# Altium integrated library Actel IGLOOe.IntLib: 72 symbols (part 10 of 24)
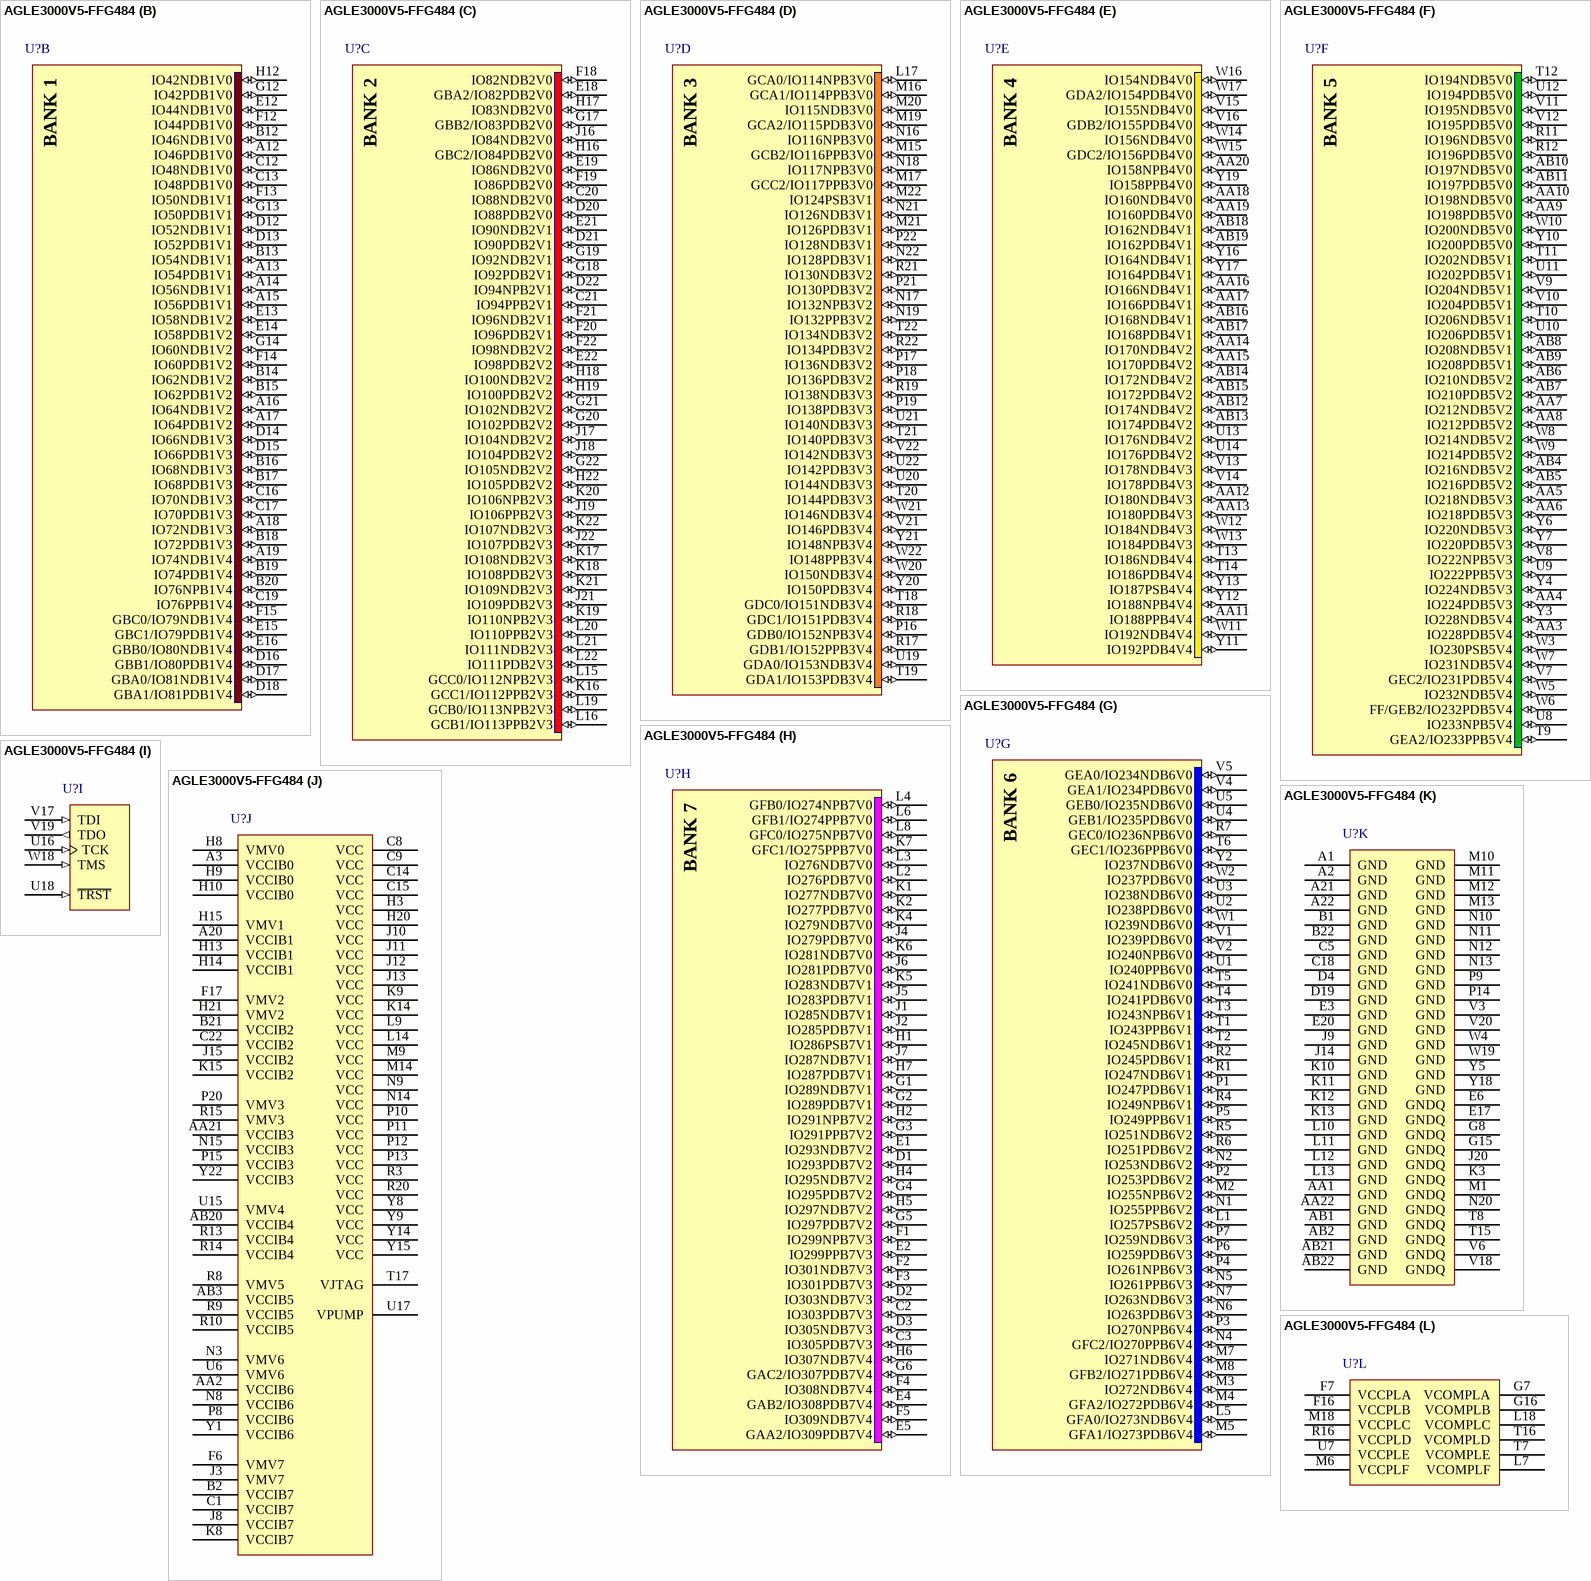
[diagram p116: symbol AGLE3000V5-FFG484]

## AGLE3000V5-FFG484
designator U?
IGLOOe 1.5V Flash FPGA with Flash*Freeze, 341 User IOs, 3M System Gates, 504Kbits RAM, 1Kbit Flash ROM, 484-Pin FBGA, F Speed Grade, Commercial Grade; DatasheetVersion: v1.0, Jan-2008; PackageVersion: rev39, Aug-2010; PackageReference: FG484; PackageDescription: 484-Ball Fine Pitch Plastic Ball Grid Array (FG484) - Fully Populated; Code_JEDEC: MS-034-AAJ-1; Code_IPC: BGA100P22X22-484; ComponentLink1Description: Manufacturer URL; ComponentLink1URL: http://www.actel.com/; ComponentLink2Description: IGLOOe Datasheet; ComponentLink2URL: http://www.actel.com/documents/IGLOOe_DS.pdf; ComponentLink3Description: Package Mechanical Drawings; ComponentLink3URL: http://www.actel.com/documents/PckgMechDrwngs.pdf; ComponentLink4Description: IGLOOe Documents; ComponentLink4URL: http://www.actel.com/products/igloo/docs.aspx
footprint FG484 (BGA, 484-Leads, Body 23x23mm, Pitch 1mm)
part A pins: A4 IO10NDB0V1 (io), A5 IO10PDB0V1 (io), A6 IO16NDB0V1 (io), A7 IO16PDB0V1 (io), A8 IO18PDB0V2 (io), A9 IO24PDB0V2 (io), A10 IO28NDB0V3 (io), A11 IO28PDB0V3 (io), B3 IO06PPB0V0 (io), B4 IO08NDB0V0 (io), B5 IO08PDB0V0 (io), B6 IO14NDB0V1 (io), B7 IO14PDB0V1 (io), B8 IO18NDB0V2 (io), B9 IO24NDB0V2 (io), B10 IO34PDB0V4 (io), B11 IO40PDB0V4 (io), C4 IO06NPB0V0 (io), C6 IO12NDB0V1 (io), C7 IO12PDB0V1 (io), C10 IO34NDB0V4 (io), C11 IO40NDB0V4 (io), D5 GAA0/IO00NDB0V0 (io), D6 GAA1/IO00PDB0V0 (io), D7 GAB0/IO01NDB0V0 (io), D8 IO20PDB0V2 (io), D9 IO22PDB0V2 (io), D10 IO30PDB0V3 (io), D11 IO38NDB0V4 (io), E7 GAB1/IO01PDB0V0 (io), E8 IO20NDB0V2 (io), E9 IO22NDB0V2 (io), E10 IO30NDB0V3 (io), E11 IO38PDB0V4 (io), F8 GAC0/IO02NDB0V0 (io), F9 GAC1/IO02PDB0V0 (io), F10 IO32NDB0V3 (io), F11 IO32PDB0V3 (io), G9 IO26NDB0V3 (io), G10 IO26PDB0V3 (io), G11 IO36PDB0V4 (io), H11 IO36NDB0V4 (io)
part B pins: A12 IO46PDB1V0 (io), A13 IO54PDB1V1 (io), A14 IO56NDB1V1 (io), A15 IO56PDB1V1 (io), A16 IO64NDB1V2 (io), A17 IO64PDB1V2 (io), A18 IO72NDB1V3 (io), A19 IO74NDB1V4 (io), B12 IO46NDB1V0 (io), B13 IO54NDB1V1 (io), B14 IO62NDB1V2 (io), B15 IO62PDB1V2 (io), B16 IO68NDB1V3 (io), B17 IO68PDB1V3 (io), B18 IO72PDB1V3 (io), B19 IO74PDB1V4 (io), B20 IO76NPB1V4 (io), C12 IO48NDB1V0 (io), C13 IO48PDB1V0 (io), C16 IO70NDB1V3 (io), C17 IO70PDB1V3 (io), C19 IO76PPB1V4 (io), D12 IO52NDB1V1 (io), D13 IO52PDB1V1 (io), D14 IO66NDB1V3 (io), D15 IO66PDB1V3 (io), D16 GBB1/IO80PDB1V4 (io), D17 GBA0/IO81NDB1V4 (io), D18 GBA1/IO81PDB1V4 (io), E12 IO44NDB1V0 (io), E13 IO58NDB1V2 (io), E14 IO58PDB1V2 (io), E15 GBC1/IO79PDB1V4 (io), E16 GBB0/IO80NDB1V4 (io), F12 IO44PDB1V0 (io), F13 IO50NDB1V1 (io), F14 IO60PDB1V2 (io), F15 GBC0/IO79NDB1V4 (io), G12 IO42PDB1V0 (io), G13 IO50PDB1V1 (io), G14 IO60NDB1V2 (io), H12 IO42NDB1V0 (io)
part C pins: C20 IO88NDB2V0 (io), C21 IO94PPB2V1 (io), D20 IO88PDB2V0 (io), D21 IO90PDB2V1 (io), D22 IO94NPB2V1 (io), E18 GBA2/IO82PDB2V0 (io), E19 IO86NDB2V0 (io), E21 IO90NDB2V1 (io), E22 IO98PDB2V2 (io), F18 IO82NDB2V0 (io), F19 IO86PDB2V0 (io), F20 IO96PDB2V1 (io), F21 IO96NDB2V1 (io), F22 IO98NDB2V2 (io), G17 GBB2/IO83PDB2V0 (io), G18 IO92PDB2V1 (io), G19 IO92NDB2V1 (io), G20 IO102PDB2V2 (io), G21 IO102NDB2V2 (io), G22 IO105NDB2V2 (io), H16 GBC2/IO84PDB2V0 (io), H17 IO83NDB2V0 (io), H18 IO100NDB2V2 (io), H19 IO100PDB2V2 (io), H22 IO105PDB2V2 (io), J16 IO84NDB2V0 (io), J17 IO104NDB2V2 (io), J18 IO104PDB2V2 (io), J19 IO106PPB2V3 (io), J21 IO109PDB2V3 (io), J22 IO107PDB2V3 (io), K16 GCC1/IO112PPB2V3 (io), K17 IO108NDB2V3 (io), K18 IO108PDB2V3 (io), K19 IO110NPB2V3 (io), K20 IO106NPB2V3 (io), K21 IO109NDB2V3 (io), K22 IO107NDB2V3 (io), L15 GCC0/IO112NPB2V3 (io), L16 GCB1/IO113PPB2V3 (io), L19 GCB0/IO113NPB2V3 (io), L20 IO110PPB2V3 (io), L21 IO111NDB2V3 (io), L22 IO111PDB2V3 (io)
part D pins: L17 GCA0/IO114NPB3V0 (io), M15 GCB2/IO116PPB3V0 (io), M16 GCA1/IO114PPB3V0 (io), M17 GCC2/IO117PPB3V0 (io), M19 GCA2/IO115PDB3V0 (io), M20 IO115NDB3V0 (io), M21 IO126PDB3V1 (io), M22 IO124PSB3V1 (io), N16 IO116NPB3V0 (io), N17 IO132NPB3V2 (io), N18 IO117NPB3V0 (io), N19 IO132PPB3V2 (io), N21 IO126NDB3V1 (io), N22 IO128PDB3V1 (io), P16 GDB0/IO152NPB3V4 (io), P17 IO136NDB3V2 (io), P18 IO136PDB3V2 (io), P19 IO138PDB3V3 (io), P21 IO130PDB3V2 (io), P22 IO128NDB3V1 (io), R17 GDB1/IO152PPB3V4 (io), R18 GDC1/IO151PDB3V4 (io), R19 IO138NDB3V3 (io), R21 IO130NDB3V2 (io), R22 IO134PDB3V2 (io), T18 GDC0/IO151NDB3V4 (io), T19 GDA1/IO153PDB3V4 (io), T20 IO144PDB3V3 (io), T21 IO140PDB3V3 (io), T22 IO134NDB3V2 (io), U19 GDA0/IO153NDB3V4 (io), U20 IO144NDB3V3 (io), U21 IO140NDB3V3 (io), U22 IO142PDB3V3 (io), V21 IO146PDB3V4 (io), V22 IO142NDB3V3 (io), W20 IO150NDB3V4 (io), W21 IO146NDB3V4 (io), W22 IO148PPB3V4 (io), Y20 IO150PDB3V4 (io), Y21 IO148NPB3V4 (io)
part E pins: AA11 IO188PPB4V4 (io), AA12 IO180NDB4V3 (io), AA13 IO180PDB4V3 (io), AA14 IO170NDB4V2 (io), AA15 IO170PDB4V2 (io), AA16 IO166NDB4V1 (io), AA17 IO166PDB4V1 (io), AA18 IO160NDB4V0 (io), AA19 IO160PDB4V0 (io), AA20 IO158NPB4V0 (io), AB12 IO174NDB4V2 (io), AB13 IO174PDB4V2 (io), AB14 IO172NDB4V2 (io), AB15 IO172PDB4V2 (io), AB16 IO168NDB4V1 (io), AB17 IO168PDB4V1 (io), AB18 IO162NDB4V1 (io), AB19 IO162PDB4V1 (io), T13 IO186NDB4V4 (io), T14 IO186PDB4V4 (io), U13 IO176NDB4V2 (io), U14 IO176PDB4V2 (io), V13 IO178NDB4V3 (io), V14 IO178PDB4V3 (io), V15 IO155NDB4V0 (io), V16 GDB2/IO155PDB4V0 (io), W11 IO192NDB4V4 (io), W12 IO184NDB4V3 (io), W13 IO184PDB4V3 (io), W14 IO156NDB4V0 (io), W15 GDC2/IO156PDB4V0 (io), W16 IO154NDB4V0 (io), W17 GDA2/IO154PDB4V0 (io), Y11 IO192PDB4V4 (io), Y12 IO188NPB4V4 (io), Y13 IO187PSB4V4 (io), Y16 IO164NDB4V1 (io), Y17 IO164PDB4V1 (io), Y19 IO158PPB4V0 (io)
part F pins: AA3 IO228PDB5V4 (io), AA4 IO224PDB5V3 (io), AA5 IO218NDB5V3 (io), AA6 IO218PDB5V3 (io), AA7 IO212NDB5V2 (io), AA8 IO212PDB5V2 (io), AA9 IO198PDB5V0 (io), AA10 IO198NDB5V0 (io), AB4 IO216NDB5V2 (io), AB5 IO216PDB5V2 (io), AB6 IO210NDB5V2 (io), AB7 IO210PDB5V2 (io), AB8 IO208NDB5V1 (io), AB9 IO208PDB5V1 (io), AB10 IO197NDB5V0 (io), AB11 IO197PDB5V0 (io), R11 IO196NDB5V0 (io), R12 IO196PDB5V0 (io), T9 GEA2/IO233PPB5V4 (io), T10 IO206NDB5V1 (io), T11 IO202NDB5V1 (io), T12 IO194NDB5V0 (io), U8 IO233NPB5V4 (io), U9 IO222PPB5V3 (io), U10 IO206PDB5V1 (io), U11 IO202PDB5V1 (io), U12 IO194PDB5V0 (io), V7 GEC2/IO231PDB5V4 (io), V8 IO222NPB5V3 (io), V9 IO204NDB5V1 (io), V10 IO204PDB5V1 (io), V11 IO195NDB5V0 (io), V12 IO195PDB5V0 (io), W3 IO230PSB5V4 (io), W5 IO232NDB5V4 (io), W6 FF/GEB2/IO232PDB5V4 (io), W7 IO231NDB5V4 (io), W8 IO214NDB5V2 (io), W9 IO214PDB5V2 (io), W10 IO200NDB5V0 (io), Y3 IO228NDB5V4 (io), Y4 IO224NDB5V3 (io), Y6 IO220NDB5V3 (io), Y7 IO220PDB5V3 (io), Y10 IO200PDB5V0 (io)
part G pins: L1 IO257PSB6V2 (io), L5 GFA0/IO273NDB6V4 (io), M2 IO255NPB6V2 (io), M3 IO272NDB6V4 (io), M4 GFA2/IO272PDB6V4 (io), M5 GFA1/IO273PDB6V4 (io), M7 IO271NDB6V4 (io), M8 GFB2/IO271PDB6V4 (io), N1 IO255PPB6V2 (io), N2 IO253NDB6V2 (io), N4 GFC2/IO270PPB6V4 (io), N5 IO261PPB6V3 (io), N6 IO263PDB6V3 (io), N7 IO263NDB6V3 (io), P1 IO247PDB6V1 (io), P2 IO253PDB6V2 (io), P3 IO270NPB6V4 (io), P4 IO261NPB6V3 (io), P5 IO249PPB6V1 (io), P6 IO259PDB6V3 (io), P7 IO259NDB6V3 (io), R1 IO247NDB6V1 (io), R2 IO245PDB6V1 (io), R4 IO249NPB6V1 (io), R5 IO251NDB6V2 (io), R6 IO251PDB6V2 (io), R7 GEC0/IO236NPB6V0 (io), T1 IO243PPB6V1 (io), T2 IO245NDB6V1 (io), T3 IO243NPB6V1 (io), T4 IO241PDB6V0 (io), T5 IO241NDB6V0 (io), T6 GEC1/IO236PPB6V0 (io), U1 IO240PPB6V0 (io), U2 IO238PDB6V0 (io), U3 IO238NDB6V0 (io), U4 GEB1/IO235PDB6V0 (io), U5 GEB0/IO235NDB6V0 (io), V1 IO239PDB6V0 (io), V2 IO240NPB6V0 (io), V4 GEA1/IO234PDB6V0 (io), V5 GEA0/IO234NDB6V0 (io), W1 IO239NDB6V0 (io), W2 IO237PDB6V0 (io), Y2 IO237NDB6V0 (io)
part H pins: C2 IO303PDB7V3 (io), C3 IO305PDB7V3 (io), D1 IO293PDB7V2 (io), D2 IO303NDB7V3 (io), D3 IO305NDB7V3 (io), E1 IO293NDB7V2 (io), E2 IO299PPB7V3 (io), E4 GAB2/IO308PDB7V4 (io), E5 GAA2/IO309PDB7V4 (io), F1 IO299NPB7V3 (io), F2 IO301NDB7V3 (io), F3 IO301PDB7V3 (io), F4 IO308NDB7V4 (io), F5 IO309NDB7V4 (io), G1 IO289NDB7V1 (io), G2 IO289PDB7V1 (io), G3 IO291PPB7V2 (io), G4 IO295PDB7V2 (io), G5 IO297PDB7V2 (io), G6 GAC2/IO307PDB7V4 (io), H1 IO286PSB7V1 (io), H2 IO291NPB7V2 (io), H4 IO295NDB7V2 (io), H5 IO297NDB7V2 (io), H6 IO307NDB7V4 (io), H7 IO287PDB7V1 (io), J1 IO285NDB7V1 (io), J2 IO285PDB7V1 (io), J4 IO279PDB7V0 (io), J5 IO283PDB7V1 (io), J6 IO281PDB7V0 (io), J7 IO287NDB7V1 (io), K1 IO277NDB7V0 (io), K2 IO277PDB7V0 (io), K4 IO279NDB7V0 (io), K5 IO283NDB7V1 (io), K6 IO281NDB7V0 (io), K7 GFC1/IO275PPB7V0 (io), L2 IO276PDB7V0 (io), L3 IO276NDB7V0 (io), L4 GFB0/IO274NPB7V0 (io), L6 GFB1/IO274PPB7V0 (io), L8 GFC0/IO275NPB7V0 (io)
part I pins: U16 TCK (in), U18 ~{TRST} (in), V17 TDI (in), V19 TDO (out), W18 TMS (in)
part J pins: A3 VCCIB0 (power), A20 VCCIB1 (power), AA2 VCCIB6 (power), AA21 VCCIB3 (power), AB3 VCCIB5 (power), AB20 VCCIB4 (power), B2 VCCIB7 (power), B21 VCCIB2 (power), C1 VCCIB7 (power), C8 VCC (power), C9 VCC (power), C14 VCC (power), C15 VCC (power), C22 VCCIB2 (power), F6 VMV7 (power), F17 VMV2 (power), H3 VCC (power), H8 VMV0 (power), H9 VCCIB0 (power), H10 VCCIB0 (power), H13 VCCIB1 (power), H14 VCCIB1 (power), H15 VMV1 (power), H20 VCC (power), H21 VMV2 (power), J3 VMV7 (power), J8 VCCIB7 (power), J10 VCC (power), J11 VCC (power), J12 VCC (power), J13 VCC (power), J15 VCCIB2 (power), K8 VCCIB7 (power), K9 VCC (power), K14 VCC (power), K15 VCCIB2 (power), L9 VCC (power), L14 VCC (power), M9 VCC (power), M14 VCC (power), N3 VMV6 (power), N8 VCCIB6 (power), N9 VCC (power), N14 VCC (power), N15 VCCIB3 (power), P8 VCCIB6 (power), P10 VCC (power), P11 VCC (power), P12 VCC (power), P13 VCC (power), P15 VCCIB3 (power), P20 VMV3 (power), R3 VCC (power), R8 VMV5 (power), R9 VCCIB5 (power), R10 VCCIB5 (power), R13 VCCIB4 (power), R14 VCCIB4 (power), R15 VMV3 (power), R20 VCC (power), T17 VJTAG (power), U6 VMV6 (power), U15 VMV4 (power), U17 VPUMP (power), Y1 VCCIB6 (power), Y8 VCC (power), Y9 VCC (power), Y14 VCC (power), Y15 VCC (power), Y22 VCCIB3 (power)
part K pins: A1 GND (power), A2 GND (power), A21 GND (power), A22 GND (power), AA1 GND (power), AA22 GND (power), AB1 GND (power), AB2 GND (power), AB21 GND (power), AB22 GND (power), B1 GND (power), B22 GND (power), C5 GND (power), C18 GND (power), D4 GND (power), D19 GND (power), E3 GND (power), E6 GNDQ (power), E17 GNDQ (power), E20 GND (power), G8 GNDQ (power), G15 GNDQ (power), J9 GND (power), J14 GND (power), J20 GNDQ (power), K3 GNDQ (power), K10 GND (power), K11 GND (power), K12 GND (power), K13 GND (power), L10 GND (power), L11 GND (power), L12 GND (power), L13 GND (power), M1 GNDQ (power), M10 GND (power), M11 GND (power), M12 GND (power), M13 GND (power), N10 GND (power), N11 GND (power), N12 GND (power), N13 GND (power), N20 GNDQ (power), P9 GND (power), P14 GND (power), T8 GNDQ (power), T15 GNDQ (power), V3 GND (power), V6 GNDQ (power), V18 GNDQ (power), V20 GND (power), W4 GND (power), W19 GND (power), Y5 GND (power), Y18 GND (power)
part L pins: F7 VCCPLA (power), F16 VCCPLB (power), G7 VCOMPLA (power), G16 VCOMPLB (power), L7 VCOMPLF (power), L18 VCOMPLC (power), M6 VCCPLF (power), M18 VCCPLC (power), R16 VCCPLD (power), T7 VCOMPLE (power), T16 VCOMPLD (power), U7 VCCPLE (power)
part A text: BANK 0
part B text: BANK 1
part C text: BANK 2
part D text: BANK 3
part E text: BANK 4
part F text: BANK 5
part G text: BANK 6
part H text: BANK 7

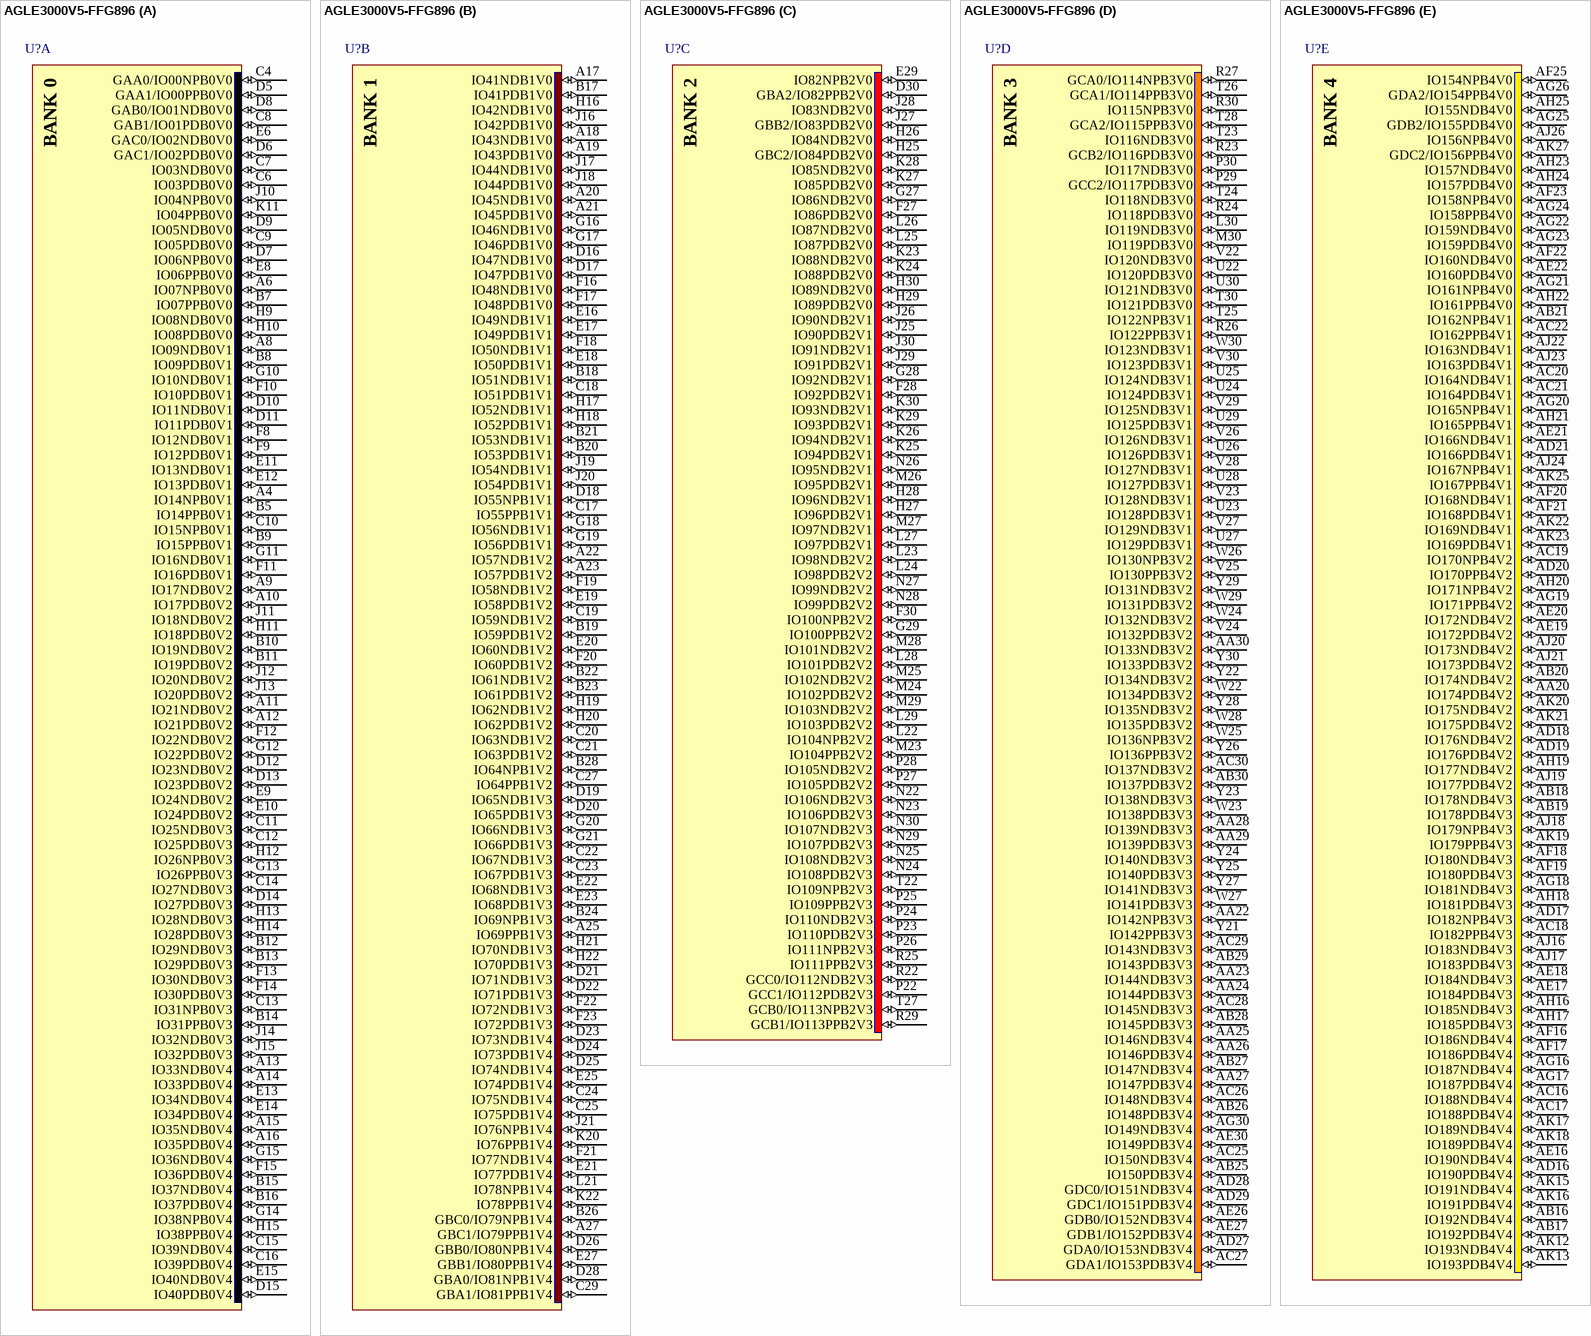
[diagram p46: symbol AGLE3000V5-FFG896]

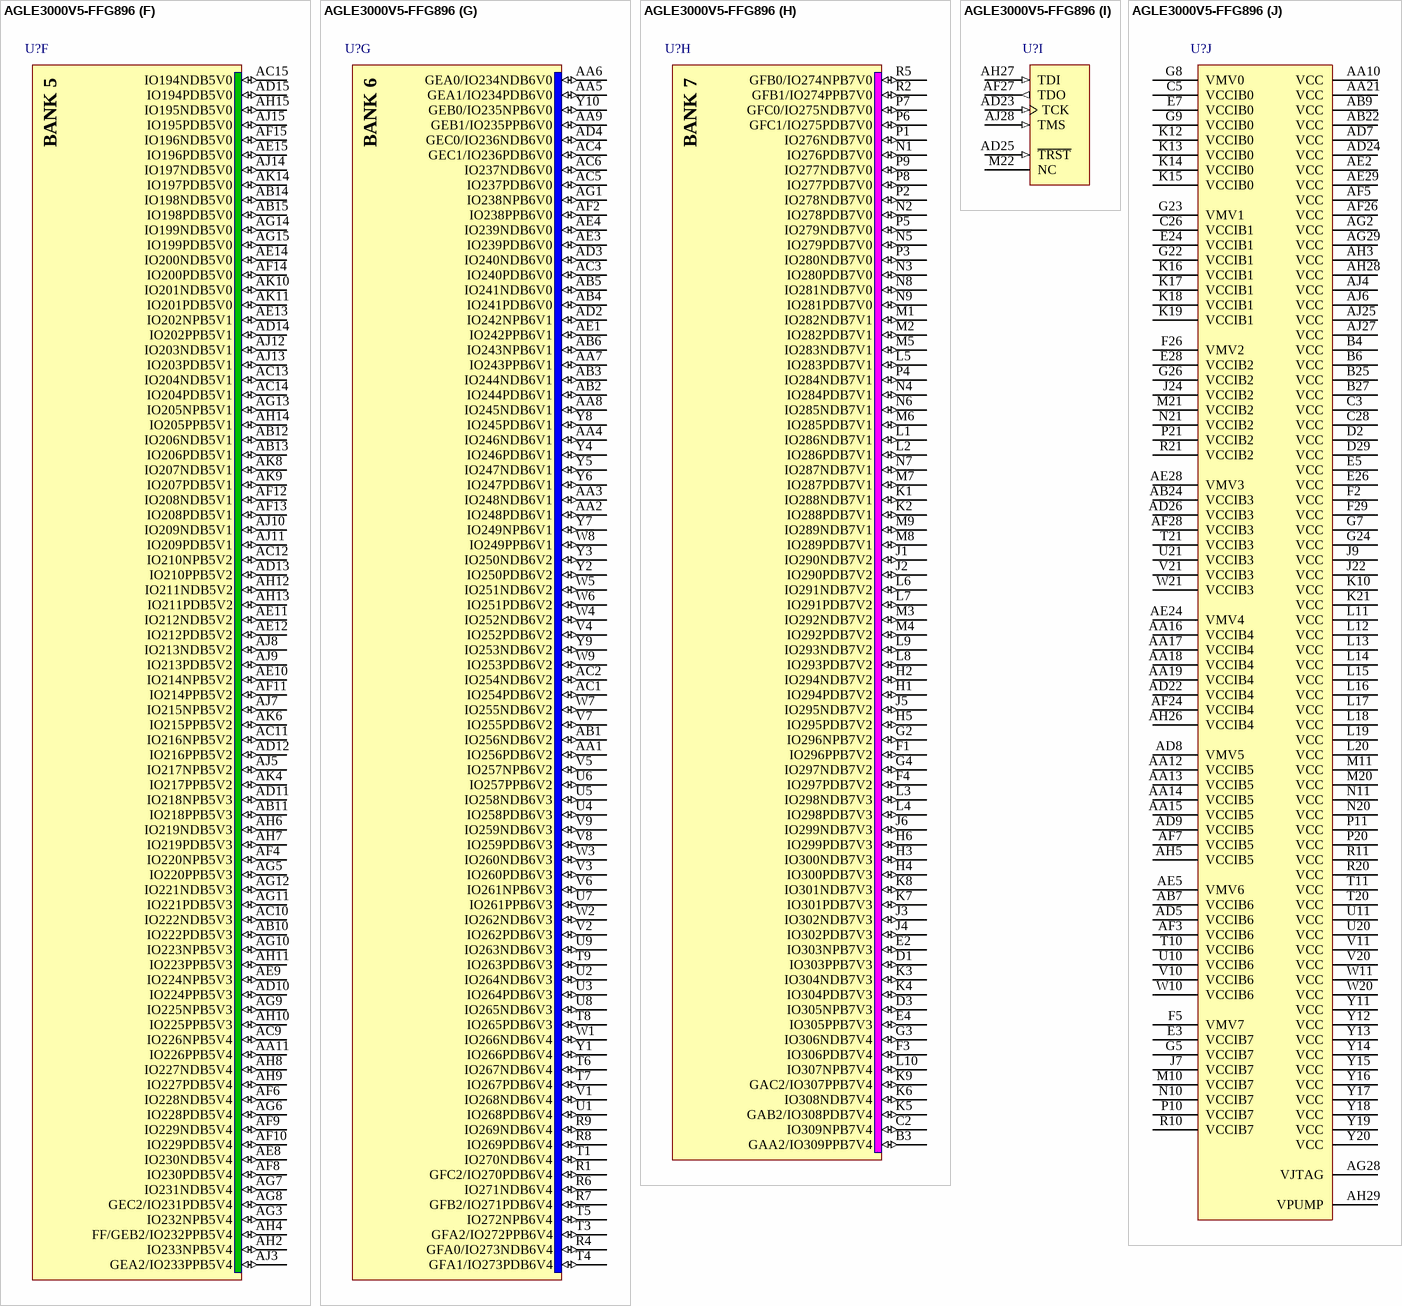
[diagram p47: symbol AGLE3000V5-FFG896]

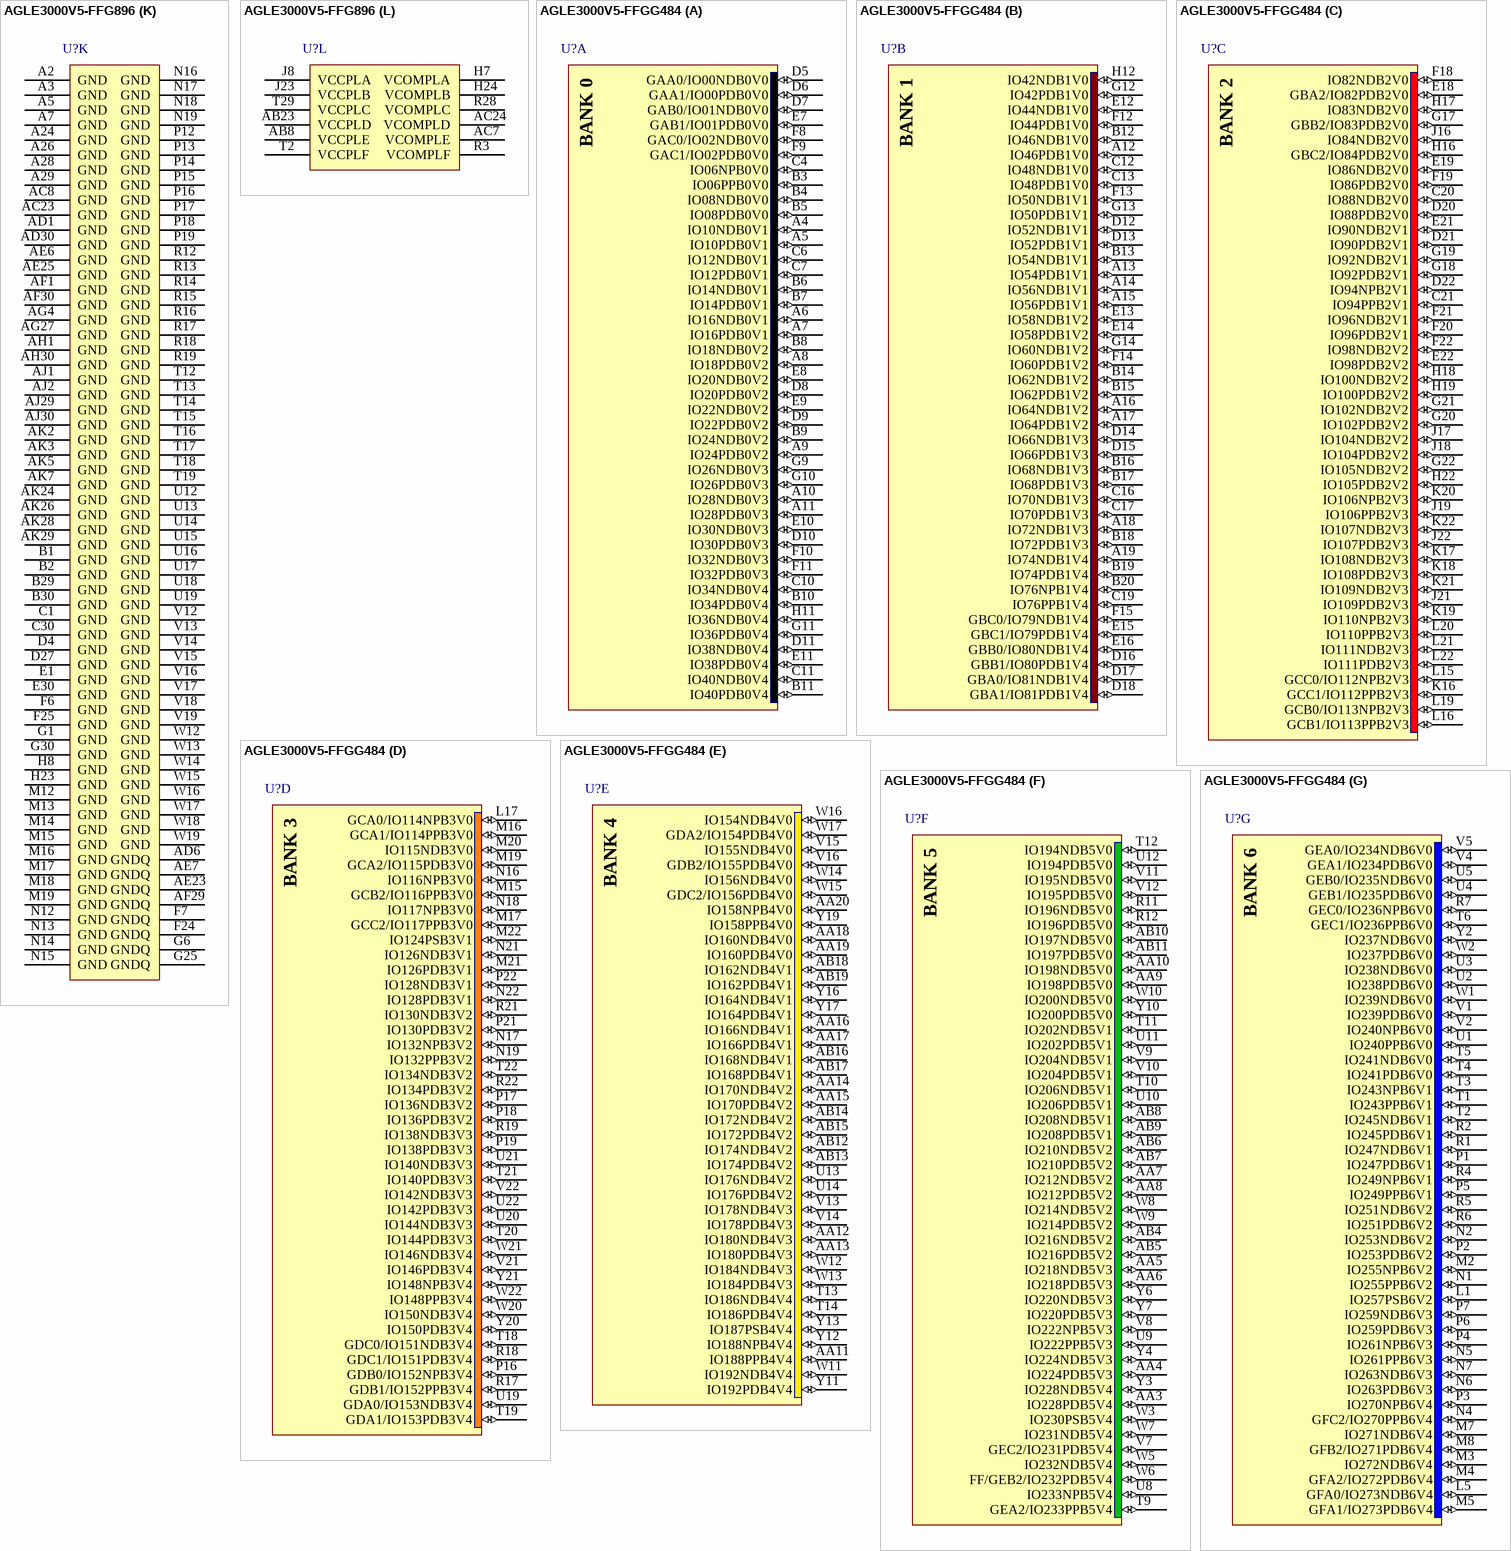
[diagram p48: symbols AGLE3000V5-FFG896 to AGLE3000V5-FFGG484]

## AGLE3000V5-FFG896
designator U?
IGLOOe 1.5V Flash FPGA with Flash*Freeze, 620 User IOs, 3M System Gates, 504Kbits RAM, 1Kbit Flash ROM, 896-Pin FBGA, F Speed Grade, Commercial Grade; DatasheetVersion: v1.0, Jan-2008; PackageVersion: rev39, Aug-2010; PackageReference: FG896; PackageDescription: 896-Ball Fine Pitch Plastic Ball Grid Array (FG896); Code_JEDEC: MS-034-AAN-1; ComponentLink1Description: Manufacturer URL; ComponentLink1URL: http://www.actel.com/; ComponentLink2Description: IGLOOe Datasheet; ComponentLink2URL: http://www.actel.com/documents/IGLOOe_DS.pdf; ComponentLink3Description: Package Mechanical Drawings; ComponentLink3URL: http://www.actel.com/documents/PckgMechDrwngs.pdf; ComponentLink4Description: IGLOOe Documents; ComponentLink4URL: http://www.actel.com/products/igloo/docs.aspx
footprint FG896 (BGA, 896-Leads, Body 31x31mm, Pitch 1mm)
part A pins: A4 IO14NPB0V1 (io), A6 IO07NPB0V0 (io), A8 IO09NDB0V1 (io), A9 IO17NDB0V2 (io), A10 IO17PDB0V2 (io), A11 IO21NDB0V2 (io), A12 IO21PDB0V2 (io), A13 IO33NDB0V4 (io), A14 IO33PDB0V4 (io), A15 IO35NDB0V4 (io), A16 IO35PDB0V4 (io), B5 IO14PPB0V1 (io), B7 IO07PPB0V0 (io), B8 IO09PDB0V1 (io), B9 IO15PPB0V1 (io), B10 IO19NDB0V2 (io), B11 IO19PDB0V2 (io), B12 IO29NDB0V3 (io), B13 IO29PDB0V3 (io), B14 IO31PPB0V3 (io), B15 IO37NDB0V4 (io), B16 IO37PDB0V4 (io), C4 GAA0/IO00NPB0V0 (io), C6 IO03PDB0V0 (io), C7 IO03NDB0V0 (io), C8 GAB1/IO01PDB0V0 (io), C9 IO05PDB0V0 (io), C10 IO15NPB0V1 (io), C11 IO25NDB0V3 (io), C12 IO25PDB0V3 (io), C13 IO31NPB0V3 (io), C14 IO27NDB0V3 (io), C15 IO39NDB0V4 (io), C16 IO39PDB0V4 (io), D5 GAA1/IO00PPB0V0 (io), D6 GAC1/IO02PDB0V0 (io), D7 IO06NPB0V0 (io), D8 GAB0/IO01NDB0V0 (io), D9 IO05NDB0V0 (io), D10 IO11NDB0V1 (io), D11 IO11PDB0V1 (io), D12 IO23NDB0V2 (io), D13 IO23PDB0V2 (io), D14 IO27PDB0V3 (io), D15 IO40PDB0V4 (io), E6 GAC0/IO02NDB0V0 (io), E8 IO06PPB0V0 (io), E9 IO24NDB0V2 (io), E10 IO24PDB0V2 (io), E11 IO13NDB0V1 (io), E12 IO13PDB0V1 (io), E13 IO34NDB0V4 (io), E14 IO34PDB0V4 (io), E15 IO40NDB0V4 (io), F8 IO12NDB0V1 (io), F9 IO12PDB0V1 (io), F10 IO10PDB0V1 (io), F11 IO16PDB0V1 (io), F12 IO22NDB0V2 (io), F13 IO30NDB0V3 (io), F14 IO30PDB0V3 (io), F15 IO36PDB0V4 (io), G10 IO10NDB0V1 (io), G11 IO16NDB0V1 (io), G12 IO22PDB0V2 (io), G13 IO26PPB0V3 (io), G14 IO38NPB0V4 (io), G15 IO36NDB0V4 (io), H9 IO08NDB0V0 (io), H10 IO08PDB0V0 (io), H11 IO18PDB0V2 (io), H12 IO26NPB0V3 (io), H13 IO28NDB0V3 (io), H14 IO28PDB0V3 (io), H15 IO38PPB0V4 (io), J10 IO04NPB0V0 (io), J11 IO18NDB0V2 (io), J12 IO20NDB0V2 (io), J13 IO20PDB0V2 (io), J14 IO32NDB0V3 (io), J15 IO32PDB0V3 (io), K11 IO04PPB0V0 (io)
part B pins: A17 IO41NDB1V0 (io), A18 IO43NDB1V0 (io), A19 IO43PDB1V0 (io), A20 IO45NDB1V0 (io), A21 IO45PDB1V0 (io), A22 IO57NDB1V2 (io), A23 IO57PDB1V2 (io), A25 IO69PPB1V3 (io), A27 GBC1/IO79PPB1V4 (io), B17 IO41PDB1V0 (io), B18 IO51NDB1V1 (io), B19 IO59PDB1V2 (io), B20 IO53PDB1V1 (io), B21 IO53NDB1V1 (io), B22 IO61NDB1V2 (io), B23 IO61PDB1V2 (io), B24 IO69NPB1V3 (io), B26 GBC0/IO79NPB1V4 (io), B28 IO64NPB1V2 (io), C17 IO55PPB1V1 (io), C18 IO51PDB1V1 (io), C19 IO59NDB1V2 (io), C20 IO63NDB1V2 (io), C21 IO63PDB1V2 (io), C22 IO67NDB1V3 (io), C23 IO67PDB1V3 (io), C24 IO75NDB1V4 (io), C25 IO75PDB1V4 (io), C27 IO64PPB1V2 (io), C29 GBA1/IO81PPB1V4 (io), D16 IO47NDB1V0 (io), D17 IO47PDB1V0 (io), D18 IO55NPB1V1 (io), D19 IO65NDB1V3 (io), D20 IO65PDB1V3 (io), D21 IO71NDB1V3 (io), D22 IO71PDB1V3 (io), D23 IO73NDB1V4 (io), D24 IO73PDB1V4 (io), D25 IO74NDB1V4 (io), D26 GBB0/IO80NPB1V4 (io), D28 GBA0/IO81NPB1V4 (io), E16 IO49NDB1V1 (io), E17 IO49PDB1V1 (io), E18 IO50PDB1V1 (io), E19 IO58PDB1V2 (io), E20 IO60NDB1V2 (io), E21 IO77PDB1V4 (io), E22 IO68NDB1V3 (io), E23 IO68PDB1V3 (io), E25 IO74PDB1V4 (io), E27 GBB1/IO80PPB1V4 (io), F16 IO48NDB1V0 (io), F17 IO48PDB1V0 (io), F18 IO50NDB1V1 (io), F19 IO58NDB1V2 (io), F20 IO60PDB1V2 (io), F21 IO77NDB1V4 (io), F22 IO72NDB1V3 (io), F23 IO72PDB1V3 (io), G16 IO46NDB1V0 (io), G17 IO46PDB1V0 (io), G18 IO56NDB1V1 (io), G19 IO56PDB1V1 (io), G20 IO66NDB1V3 (io), G21 IO66PDB1V3 (io), H16 IO42NDB1V0 (io), H17 IO52NDB1V1 (io), H18 IO52PDB1V1 (io), H19 IO62NDB1V2 (io), H20 IO62PDB1V2 (io), H21 IO70NDB1V3 (io), H22 IO70PDB1V3 (io), J16 IO42PDB1V0 (io), J17 IO44NDB1V0 (io), J18 IO44PDB1V0 (io), J19 IO54NDB1V1 (io), J20 IO54PDB1V1 (io), J21 IO76NPB1V4 (io), K20 IO76PPB1V4 (io), K22 IO78PPB1V4 (io), L21 IO78NPB1V4 (io)
part C pins: D30 GBA2/IO82PPB2V0 (io), E29 IO82NPB2V0 (io), F27 IO86PDB2V0 (io), F28 IO92PDB2V1 (io), F30 IO100NPB2V2 (io), G27 IO86NDB2V0 (io), G28 IO92NDB2V1 (io), G29 IO100PPB2V2 (io), H25 GBC2/IO84PDB2V0 (io), H26 IO84NDB2V0 (io), H27 IO96PDB2V1 (io), H28 IO96NDB2V1 (io), H29 IO89PDB2V0 (io), H30 IO89NDB2V0 (io), J25 IO90PDB2V1 (io), J26 IO90NDB2V1 (io), J27 GBB2/IO83PDB2V0 (io), J28 IO83NDB2V0 (io), J29 IO91PDB2V1 (io), J30 IO91NDB2V1 (io), K23 IO88NDB2V0 (io), K24 IO88PDB2V0 (io), K25 IO94PDB2V1 (io), K26 IO94NDB2V1 (io), K27 IO85PDB2V0 (io), K28 IO85NDB2V0 (io), K29 IO93PDB2V1 (io), K30 IO93NDB2V1 (io), L22 IO104NPB2V2 (io), L23 IO98NDB2V2 (io), L24 IO98PDB2V2 (io), L25 IO87PDB2V0 (io), L26 IO87NDB2V0 (io), L27 IO97PDB2V1 (io), L28 IO101PDB2V2 (io), L29 IO103PDB2V2 (io), M23 IO104PPB2V2 (io), M24 IO102PDB2V2 (io), M25 IO102NDB2V2 (io), M26 IO95PDB2V1 (io), M27 IO97NDB2V1 (io), M28 IO101NDB2V2 (io), M29 IO103NDB2V2 (io), N22 IO106NDB2V3 (io), N23 IO106PDB2V3 (io), N24 IO108PDB2V3 (io), N25 IO108NDB2V3 (io), N26 IO95NDB2V1 (io), N27 IO99NDB2V2 (io), N28 IO99PDB2V2 (io), N29 IO107PDB2V3 (io), N30 IO107NDB2V3 (io), P22 GCC1/IO112PDB2V3 (io), P23 IO110PDB2V3 (io), P24 IO110NDB2V3 (io), P25 IO109PPB2V3 (io), P26 IO111NPB2V3 (io), P27 IO105PDB2V2 (io), P28 IO105NDB2V2 (io), R22 GCC0/IO112NDB2V3 (io), R25 IO111PPB2V3 (io), R29 GCB1/IO113PPB2V3 (io), T22 IO109NPB2V3 (io), T27 GCB0/IO113NPB2V3 (io)
part D pins: AA22 IO142NPB3V3 (io), AA23 IO144NDB3V3 (io), AA24 IO144PDB3V3 (io), AA25 IO146NDB3V4 (io), AA26 IO146PDB3V4 (io), AA27 IO147PDB3V4 (io), AA28 IO139NDB3V3 (io), AA29 IO139PDB3V3 (io), AA30 IO133NDB3V2 (io), AB25 IO150PDB3V4 (io), AB26 IO148PDB3V4 (io), AB27 IO147NDB3V4 (io), AB28 IO145PDB3V3 (io), AB29 IO143PDB3V3 (io), AB30 IO137PDB3V2 (io), AC25 IO150NDB3V4 (io), AC26 IO148NDB3V4 (io), AC27 GDA1/IO153PDB3V4 (io), AC28 IO145NDB3V3 (io), AC29 IO143NDB3V3 (io), AC30 IO137NDB3V2 (io), AD27 GDA0/IO153NDB3V4 (io), AD28 GDC0/IO151NDB3V4 (io), AD29 GDC1/IO151PDB3V4 (io), AE26 GDB0/IO152NDB3V4 (io), AE27 GDB1/IO152PDB3V4 (io), AE30 IO149PDB3V4 (io), AG30 IO149NDB3V4 (io), L30 IO119NDB3V0 (io), M30 IO119PDB3V0 (io), P29 GCC2/IO117PDB3V0 (io), P30 IO117NDB3V0 (io), R23 GCB2/IO116PDB3V0 (io), R24 IO118PDB3V0 (io), R26 IO122PPB3V1 (io), R27 GCA0/IO114NPB3V0 (io), R30 IO115NPB3V0 (io), T23 IO116NDB3V0 (io), T24 IO118NDB3V0 (io), T25 IO122NPB3V1 (io), T26 GCA1/IO114PPB3V0 (io), T28 GCA2/IO115PPB3V0 (io), T30 IO121PDB3V0 (io), U22 IO120PDB3V0 (io), U23 IO128PDB3V1 (io), U24 IO124PDB3V1 (io), U25 IO124NDB3V1 (io), U26 IO126PDB3V1 (io), U27 IO129PDB3V1 (io), U28 IO127PDB3V1 (io), U29 IO125PDB3V1 (io), U30 IO121NDB3V0 (io), V22 IO120NDB3V0 (io), V23 IO128NDB3V1 (io), V24 IO132PDB3V2 (io), V25 IO130PPB3V2 (io), V26 IO126NDB3V1 (io), V27 IO129NDB3V1 (io), V28 IO127NDB3V1 (io), V29 IO125NDB3V1 (io), V30 IO123PDB3V1 (io), W22 IO134PDB3V2 (io), W23 IO138PDB3V3 (io), W24 IO132NDB3V2 (io), W25 IO136NPB3V2 (io), W26 IO130NPB3V2 (io), W27 IO141PDB3V3 (io), W28 IO135PDB3V2 (io), W29 IO131PDB3V2 (io), W30 IO123NDB3V1 (io), Y21 IO142PPB3V3 (io), Y22 IO134NDB3V2 (io), Y23 IO138NDB3V3 (io), Y24 IO140NDB3V3 (io), Y25 IO140PDB3V3 (io), Y26 IO136PPB3V2 (io), Y27 IO141NDB3V3 (io), Y28 IO135NDB3V2 (io), Y29 IO131NDB3V2 (io), Y30 IO133PDB3V2 (io)
part E pins: AA20 IO174PDB4V2 (io), AB16 IO192NDB4V4 (io), AB17 IO192PDB4V4 (io), AB18 IO178NDB4V3 (io), AB19 IO178PDB4V3 (io), AB20 IO174NDB4V2 (io), AB21 IO162NPB4V1 (io), AC16 IO188NDB4V4 (io), AC17 IO188PDB4V4 (io), AC18 IO182PPB4V3 (io), AC19 IO170NPB4V2 (io), AC20 IO164NDB4V1 (io), AC21 IO164PDB4V1 (io), AC22 IO162PPB4V1 (io), AD16 IO190PDB4V4 (io), AD17 IO182NPB4V3 (io), AD18 IO176NDB4V2 (io), AD19 IO176PDB4V2 (io), AD20 IO170PPB4V2 (io), AD21 IO166PDB4V1 (io), AE16 IO190NDB4V4 (io), AE17 IO184PDB4V3 (io), AE18 IO184NDB4V3 (io), AE19 IO172PDB4V2 (io), AE20 IO172NDB4V2 (io), AE21 IO166NDB4V1 (io), AE22 IO160PDB4V0 (io), AF16 IO186NDB4V4 (io), AF17 IO186PDB4V4 (io), AF18 IO180NDB4V3 (io), AF19 IO180PDB4V3 (io), AF20 IO168NDB4V1 (io), AF21 IO168PDB4V1 (io), AF22 IO160NDB4V0 (io), AF23 IO158NPB4V0 (io), AF25 IO154NPB4V0 (io), AG16 IO187NDB4V4 (io), AG17 IO187PDB4V4 (io), AG18 IO181NDB4V3 (io), AG19 IO171PPB4V2 (io), AG20 IO165NPB4V1 (io), AG21 IO161NPB4V0 (io), AG22 IO159NDB4V0 (io), AG23 IO159PDB4V0 (io), AG24 IO158PPB4V0 (io), AG25 GDB2/IO155PDB4V0 (io), AG26 GDA2/IO154PPB4V0 (io), AH16 IO185NDB4V3 (io), AH17 IO185PDB4V3 (io), AH18 IO181PDB4V3 (io), AH19 IO177NDB4V2 (io), AH20 IO171NPB4V2 (io), AH21 IO165PPB4V1 (io), AH22 IO161PPB4V0 (io), AH23 IO157NDB4V0 (io), AH24 IO157PDB4V0 (io), AH25 IO155NDB4V0 (io), AJ16 IO183NDB4V3 (io), AJ17 IO183PDB4V3 (io), AJ18 IO179NPB4V3 (io), AJ19 IO177PDB4V2 (io), AJ20 IO173NDB4V2 (io), AJ21 IO173PDB4V2 (io), AJ22 IO163NDB4V1 (io), AJ23 IO163PDB4V1 (io), AJ24 IO167NPB4V1 (io), AJ26 IO156NPB4V0 (io), AK12 IO193NDB4V4 (io), AK13 IO193PDB4V4 (io), AK15 IO191NDB4V4 (io), AK16 IO191PDB4V4 (io), AK17 IO189NDB4V4 (io), AK18 IO189PDB4V4 (io), AK19 IO179PPB4V3 (io), AK20 IO175NDB4V2 (io), AK21 IO175PDB4V2 (io), AK22 IO169NDB4V1 (io), AK23 IO169PDB4V1 (io), AK25 IO167PPB4V1 (io), AK27 GDC2/IO156PPB4V0 (io)
part F pins: AA11 IO226PPB5V4 (io), AB10 IO222PDB5V3 (io), AB11 IO218PPB5V3 (io), AB12 IO206NDB5V1 (io), AB13 IO206PDB5V1 (io), AB14 IO198NDB5V0 (io), AB15 IO198PDB5V0 (io), AC9 IO226NPB5V4 (io), AC10 IO222NDB5V3 (io), AC11 IO216NPB5V2 (io), AC12 IO210NPB5V2 (io), AC13 IO204NDB5V1 (io), AC14 IO204PDB5V1 (io), AC15 IO194NDB5V0 (io), AD10 IO224PPB5V3 (io), AD11 IO218NPB5V3 (io), AD12 IO216PPB5V2 (io), AD13 IO210PPB5V2 (io), AD14 IO202PPB5V1 (io), AD15 IO194PDB5V0 (io), AE8 IO230NDB5V4 (io), AE9 IO224NPB5V3 (io), AE10 IO214NPB5V2 (io), AE11 IO212NDB5V2 (io), AE12 IO212PDB5V2 (io), AE13 IO202NPB5V1 (io), AE14 IO200NDB5V0 (io), AE15 IO196PDB5V0 (io), AF4 IO220NPB5V3 (io), AF6 IO228NDB5V4 (io), AF8 IO230PDB5V4 (io), AF9 IO229NDB5V4 (io), AF10 IO229PDB5V4 (io), AF11 IO214PPB5V2 (io), AF12 IO208NDB5V1 (io), AF13 IO208PDB5V1 (io), AF14 IO200PDB5V0 (io), AF15 IO196NDB5V0 (io), AG3 IO232NPB5V4 (io), AG5 IO220PPB5V3 (io), AG6 IO228PDB5V4 (io), AG7 IO231NDB5V4 (io), AG8 GEC2/IO231PDB5V4 (io), AG9 IO225NPB5V3 (io), AG10 IO223NPB5V3 (io), AG11 IO221PDB5V3 (io), AG12 IO221NDB5V3 (io), AG13 IO205NPB5V1 (io), AG14 IO199NDB5V0 (io), AG15 IO199PDB5V0 (io), AH2 IO233NPB5V4 (io), AH4 FF/GEB2/IO232PPB5V4 (io), AH6 IO219NDB5V3 (io), AH7 IO219PDB5V3 (io), AH8 IO227NDB5V4 (io), AH9 IO227PDB5V4 (io), AH10 IO225PPB5V3 (io), AH11 IO223PPB5V3 (io), AH12 IO211NDB5V2 (io), AH13 IO211PDB5V2 (io), AH14 IO205PPB5V1 (io), AH15 IO195NDB5V0 (io), AJ3 GEA2/IO233PPB5V4 (io), AJ5 IO217NPB5V2 (io), AJ7 IO215NPB5V2 (io), AJ8 IO213NDB5V2 (io), AJ9 IO213PDB5V2 (io), AJ10 IO209NDB5V1 (io), AJ11 IO209PDB5V1 (io), AJ12 IO203NDB5V1 (io), AJ13 IO203PDB5V1 (io), AJ14 IO197NDB5V0 (io), AJ15 IO195PDB5V0 (io), AK4 IO217PPB5V2 (io), AK6 IO215PPB5V2 (io), AK8 IO207NDB5V1 (io), AK9 IO207PDB5V1 (io), AK10 IO201NDB5V0 (io), AK11 IO201PDB5V0 (io), AK14 IO197PDB5V0 (io)
part G pins: AA1 IO256PDB6V2 (io), AA2 IO248PDB6V1 (io), AA3 IO248NDB6V1 (io), AA4 IO246NDB6V1 (io), AA5 GEA1/IO234PDB6V0 (io), AA6 GEA0/IO234NDB6V0 (io), AA7 IO243PPB6V1 (io), AA8 IO245NDB6V1 (io), AA9 GEB1/IO235PPB6V0 (io), AB1 IO256NDB6V2 (io), AB2 IO244PDB6V1 (io), AB3 IO244NDB6V1 (io), AB4 IO241PDB6V0 (io), AB5 IO241NDB6V0 (io), AB6 IO243NPB6V1 (io), AC1 IO254PDB6V2 (io), AC2 IO254NDB6V2 (io), AC3 IO240PDB6V0 (io), AC4 GEC1/IO236PDB6V0 (io), AC5 IO237PDB6V0 (io), AC6 IO237NDB6V0 (io), AD2 IO242NPB6V1 (io), AD3 IO240NDB6V0 (io), AD4 GEC0/IO236NDB6V0 (io), AE1 IO242PPB6V1 (io), AE3 IO239PDB6V0 (io), AE4 IO239NDB6V0 (io), AF2 IO238PPB6V0 (io), AG1 IO238NPB6V0 (io), R1 GFC2/IO270PDB6V4 (io), R4 GFA0/IO273NDB6V4 (io), R6 IO271NDB6V4 (io), R7 GFB2/IO271PDB6V4 (io), R8 IO269PDB6V4 (io), R9 IO269NDB6V4 (io), T1 IO270NDB6V4 (io), T3 GFA2/IO272PPB6V4 (io), T4 GFA1/IO273PDB6V4 (io), T5 IO272NPB6V4 (io), T6 IO267NDB6V4 (io), T7 IO267PDB6V4 (io), T8 IO265PDB6V3 (io), T9 IO263PDB6V3 (io), U1 IO268PDB6V4 (io), U2 IO264NDB6V3 (io), U3 IO264PDB6V3 (io), U4 IO258PDB6V3 (io), U5 IO258NDB6V3 (io), U6 IO257PPB6V2 (io), U7 IO261PPB6V3 (io), U8 IO265NDB6V3 (io), U9 IO263NDB6V3 (io), V1 IO268NDB6V4 (io), V2 IO262PDB6V3 (io), V3 IO260PDB6V3 (io), V4 IO252PDB6V2 (io), V5 IO257NPB6V2 (io), V6 IO261NPB6V3 (io), V7 IO255PDB6V2 (io), V8 IO259PDB6V3 (io), V9 IO259NDB6V3 (io), W1 IO266NDB6V4 (io), W2 IO262NDB6V3 (io), W3 IO260NDB6V3 (io), W4 IO252NDB6V2 (io), W5 IO251NDB6V2 (io), W6 IO251PDB6V2 (io), W7 IO255NDB6V2 (io), W8 IO249PPB6V1 (io), W9 IO253PDB6V2 (io), Y1 IO266PDB6V4 (io), Y2 IO250PDB6V2 (io), Y3 IO250NDB6V2 (io), Y4 IO246PDB6V1 (io), Y5 IO247NDB6V1 (io), Y6 IO247PDB6V1 (io), Y7 IO249NPB6V1 (io), Y8 IO245PDB6V1 (io), Y9 IO253NDB6V2 (io), Y10 GEB0/IO235NPB6V0 (io)
part H pins: B3 GAA2/IO309PPB7V4 (io), C2 IO309NPB7V4 (io), D1 IO303PPB7V3 (io), D3 IO305NPB7V3 (io), E2 IO303NPB7V3 (io), E4 IO305PPB7V3 (io), F1 IO296PPB7V2 (io), F3 IO306PDB7V4 (io), F4 IO297PDB7V2 (io), G2 IO296NPB7V2 (io), G3 IO306NDB7V4 (io), G4 IO297NDB7V2 (io), H1 IO294PDB7V2 (io), H2 IO294NDB7V2 (io), H3 IO300NDB7V3 (io), H4 IO300PDB7V3 (io), H5 IO295PDB7V2 (io), H6 IO299PDB7V3 (io), J1 IO290NDB7V2 (io), J2 IO290PDB7V2 (io), J3 IO302NDB7V3 (io), J4 IO302PDB7V3 (io), J5 IO295NDB7V2 (io), J6 IO299NDB7V3 (io), K1 IO288NDB7V1 (io), K2 IO288PDB7V1 (io), K3 IO304NDB7V3 (io), K4 IO304PDB7V3 (io), K5 GAB2/IO308PDB7V4 (io), K6 IO308NDB7V4 (io), K7 IO301PDB7V3 (io), K8 IO301NDB7V3 (io), K9 GAC2/IO307PPB7V4 (io), L1 IO286NDB7V1 (io), L2 IO286PDB7V1 (io), L3 IO298NDB7V3 (io), L4 IO298PDB7V3 (io), L5 IO283PDB7V1 (io), L6 IO291NDB7V2 (io), L7 IO291PDB7V2 (io), L8 IO293PDB7V2 (io), L9 IO293NDB7V2 (io), L10 IO307NPB7V4 (io), M1 IO282NDB7V1 (io), M2 IO282PDB7V1 (io), M3 IO292NDB7V2 (io), M4 IO292PDB7V2 (io), M5 IO283NDB7V1 (io), M6 IO285PDB7V1 (io), M7 IO287PDB7V1 (io), M8 IO289PDB7V1 (io), M9 IO289NDB7V1 (io), N1 IO276PDB7V0 (io), N2 IO278PDB7V0 (io), N3 IO280PDB7V0 (io), N4 IO284PDB7V1 (io), N5 IO279PDB7V0 (io), N6 IO285NDB7V1 (io), N7 IO287NDB7V1 (io), N8 IO281NDB7V0 (io), N9 IO281PDB7V0 (io), P1 IO276NDB7V0 (io), P2 IO278NDB7V0 (io), P3 IO280NDB7V0 (io), P4 IO284NDB7V1 (io), P5 IO279NDB7V0 (io), P6 GFC1/IO275PDB7V0 (io), P7 GFC0/IO275NDB7V0 (io), P8 IO277PDB7V0 (io), P9 IO277NDB7V0 (io), R2 GFB1/IO274PPB7V0 (io), R5 GFB0/IO274NPB7V0 (io)
part I pins: AD23 TCK (in), AD25 ~{TRST} (in), AF27 TDO (out), AH27 TDI (in), AJ28 TMS (in), M22 NC
part J pins: AA10 VCC (power), AA12 VCCIB5 (power), AA13 VCCIB5 (power), AA14 VCCIB5 (power), AA15 VCCIB5 (power), AA16 VCCIB4 (power), AA17 VCCIB4 (power), AA18 VCCIB4 (power), AA19 VCCIB4 (power), AA21 VCC (power), AB7 VCCIB6 (power), AB9 VCC (power), AB22 VCC (power), AB24 VCCIB3 (power), AD5 VCCIB6 (power), AD7 VCC (power), AD8 VMV5 (power), AD9 VCCIB5 (power), AD22 VCCIB4 (power), AD24 VCC (power), AD26 VCCIB3 (power), AE2 VCC (power), AE5 VMV6 (power), AE24 VMV4 (power), AE28 VMV3 (power), AE29 VCC (power), AF3 VCCIB6 (power), AF5 VCC (power), AF7 VCCIB5 (power), AF24 VCCIB4 (power), AF26 VCC (power), AF28 VCCIB3 (power), AG2 VCC (power), AG28 VJTAG (power), AG29 VCC (power), AH3 VCC (power), AH5 VCCIB5 (power), AH26 VCCIB4 (power), AH28 VCC (power), AH29 VPUMP (power), AJ4 VCC (power), AJ6 VCC (power), AJ25 VCC (power), AJ27 VCC (power), B4 VCC (power), B6 VCC (power), B25 VCC (power), B27 VCC (power), C3 VCC (power), C5 VCCIB0 (power), C26 VCCIB1 (power), C28 VCC (power), D2 VCC (power), D29 VCC (power), E3 VCCIB7 (power), E5 VCC (power), E7 VCCIB0 (power), E24 VCCIB1 (power), E26 VCC (power), E28 VCCIB2 (power), F2 VCC (power), F5 VMV7 (power), F26 VMV2 (power), F29 VCC (power), G5 VCCIB7 (power), G7 VCC (power), G8 VMV0 (power), G9 VCCIB0 (power), G22 VCCIB1 (power), G23 VMV1 (power), G24 VCC (power), G26 VCCIB2 (power), J7 VCCIB7 (power), J9 VCC (power), J22 VCC (power), J24 VCCIB2 (power), K10 VCC (power), K12 VCCIB0 (power), K13 VCCIB0 (power), K14 VCCIB0 (power), K15 VCCIB0 (power), K16 VCCIB1 (power), K17 VCCIB1 (power), K18 VCCIB1 (power), K19 VCCIB1 (power), K21 VCC (power), L11 VCC (power), L12 VCC (power), L13 VCC (power), L14 VCC (power), L15 VCC (power), L16 VCC (power), L17 VCC (power), L18 VCC (power), L19 VCC (power), L20 VCC (power), M10 VCCIB7 (power), M11 VCC (power), M20 VCC (power), M21 VCCIB2 (power), N10 VCCIB7 (power), N11 VCC (power), N20 VCC (power), N21 VCCIB2 (power), P10 VCCIB7 (power), P11 VCC (power), P20 VCC (power), P21 VCCIB2 (power), R10 VCCIB7 (power), R11 VCC (power), R20 VCC (power), R21 VCCIB2 (power), T10 VCCIB6 (power), T11 VCC (power), T20 VCC (power), T21 VCCIB3 (power), U10 VCCIB6 (power), U11 VCC (power), U20 VCC (power), U21 VCCIB3 (power), V10 VCCIB6 (power), V11 VCC (power), V20 VCC (power), V21 VCCIB3 (power), W10 VCCIB6 (power), W11 VCC (power), W20 VCC (power), W21 VCCIB3 (power), Y11 VCC (power), Y12 VCC (power), Y13 VCC (power), Y14 VCC (power), Y15 VCC (power), Y16 VCC (power), Y17 VCC (power), Y18 VCC (power), Y19 VCC (power), Y20 VCC (power)
part K pins: A2 GND (power), A3 GND (power), A5 GND (power), A7 GND (power), A24 GND (power), A26 GND (power), A28 GND (power), A29 GND (power), AC8 GND (power), AC23 GND (power), AD1 GND (power), AD6 GNDQ (power), AD30 GND (power), AE6 GND (power), AE7 GNDQ (power), AE23 GNDQ (power), AE25 GND (power), AF1 GND (power), AF29 GNDQ (power), AF30 GND (power), AG4 GND (power), AG27 GND (power), AH1 GND (power), AH30 GND (power), AJ1 GND (power), AJ2 GND (power), AJ29 GND (power), AJ30 GND (power), AK2 GND (power), AK3 GND (power), AK5 GND (power), AK7 GND (power), AK24 GND (power), AK26 GND (power), AK28 GND (power), AK29 GND (power), B1 GND (power), B2 GND (power), B29 GND (power), B30 GND (power), C1 GND (power), C30 GND (power), D4 GND (power), D27 GND (power), E1 GND (power), E30 GND (power), F6 GND (power), F7 GNDQ (power), F24 GNDQ (power), F25 GND (power), G1 GND (power), G6 GNDQ (power), G25 GNDQ (power), G30 GND (power), H8 GND (power), H23 GND (power), M12 GND (power), M13 GND (power), M14 GND (power), M15 GND (power), M16 GND (power), M17 GND (power), M18 GND (power), M19 GND (power), N12 GND (power), N13 GND (power), N14 GND (power), N15 GND (power), N16 GND (power), N17 GND (power), N18 GND (power), N19 GND (power), P12 GND (power), P13 GND (power), P14 GND (power), P15 GND (power), P16 GND (power), P17 GND (power), P18 GND (power), P19 GND (power), R12 GND (power), R13 GND (power), R14 GND (power), R15 GND (power), R16 GND (power), R17 GND (power), R18 GND (power), R19 GND (power), T12 GND (power), T13 GND (power), T14 GND (power), T15 GND (power), T16 GND (power), T17 GND (power), T18 GND (power), T19 GND (power), U12 GND (power), U13 GND (power), U14 GND (power), U15 GND (power), U16 GND (power), U17 GND (power), U18 GND (power), U19 GND (power), V12 GND (power), V13 GND (power), V14 GND (power), V15 GND (power), V16 GND (power), V17 GND (power), V18 GND (power), V19 GND (power), W12 GND (power), W13 GND (power), W14 GND (power), W15 GND (power), W16 GND (power), W17 GND (power), W18 GND (power), W19 GND (power)
part L pins: AB8 VCCPLE (power), AB23 VCCPLD (power), AC7 VCOMPLE (power), AC24 VCOMPLD (power), H7 VCOMPLA (power), H24 VCOMPLB (power), J8 VCCPLA (power), J23 VCCPLB (power), R3 VCOMPLF (power), R28 VCOMPLC (power), T2 VCCPLF (power), T29 VCCPLC (power)
part A text: BANK 0
part B text: BANK 1
part C text: BANK 2
part D text: BANK 3
part E text: BANK 4
part F text: BANK 5
part G text: BANK 6
part H text: BANK 7

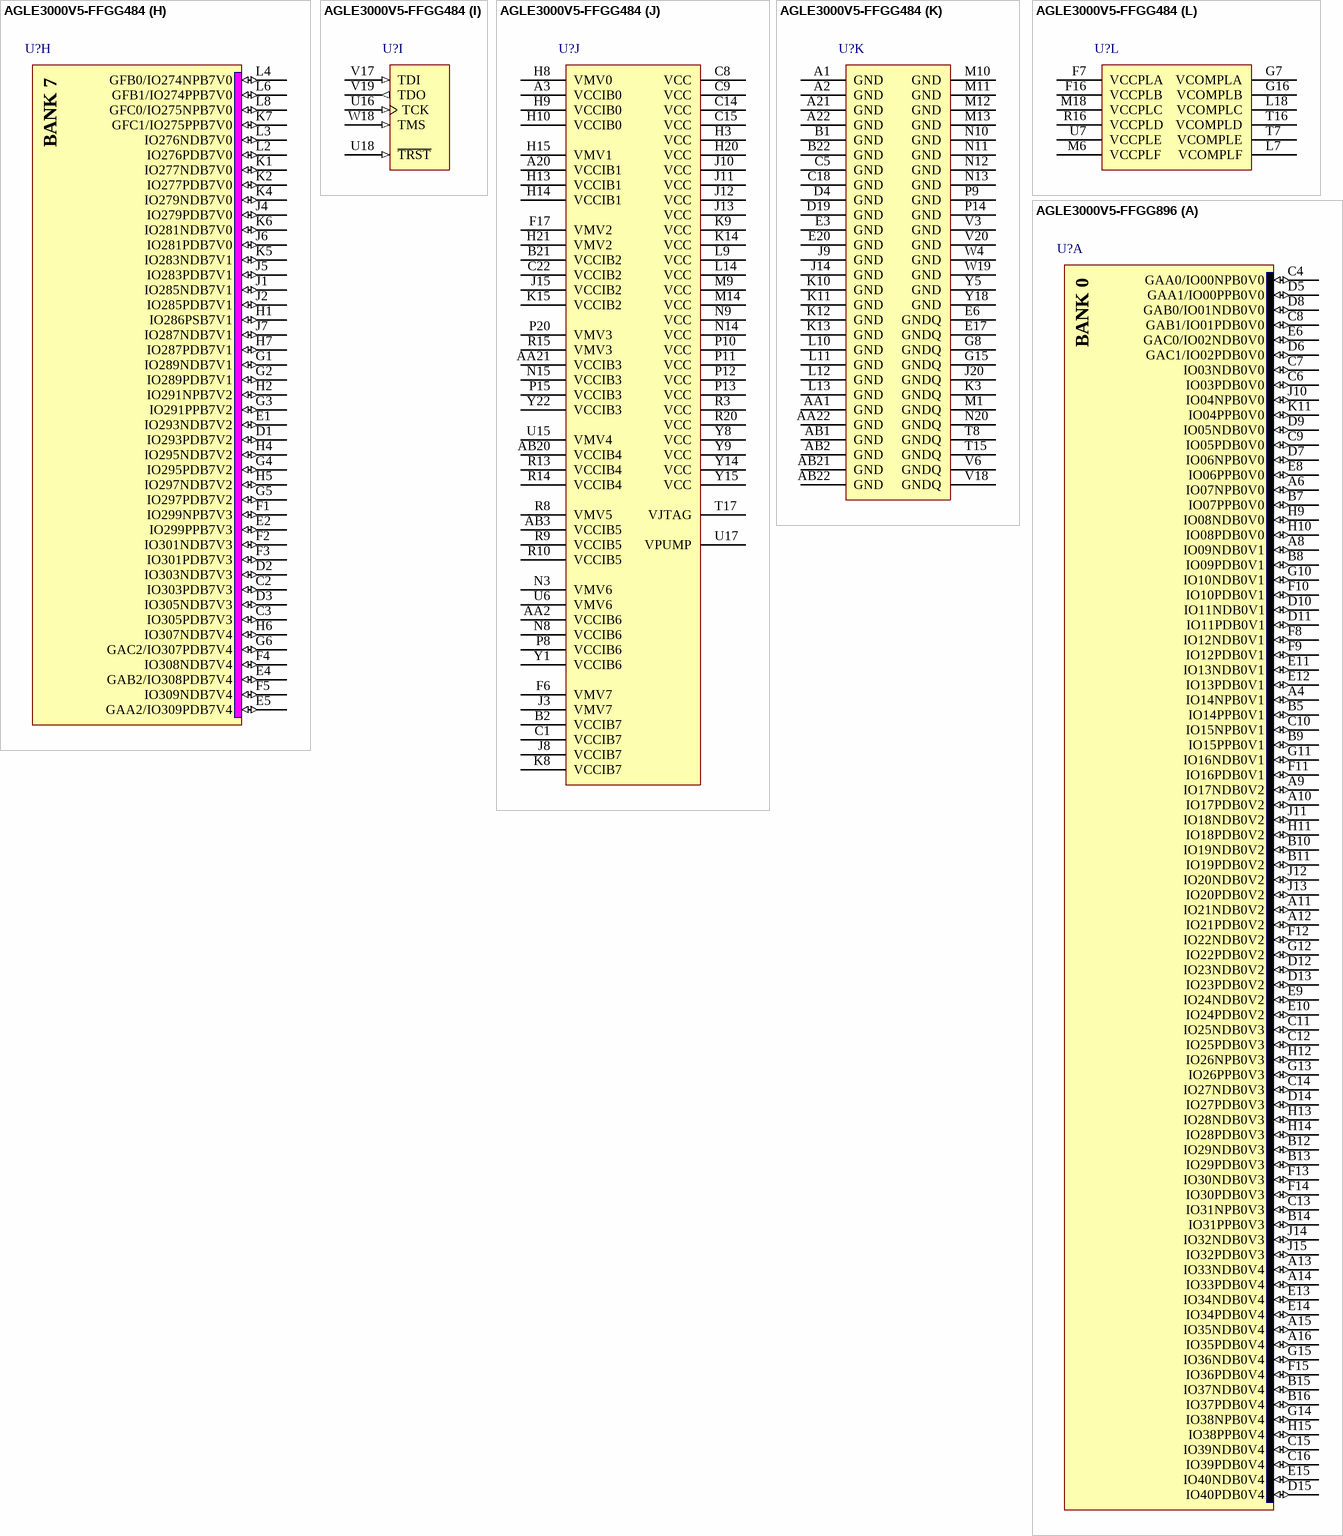
[diagram p49: symbols AGLE3000V5-FFGG484 to AGLE3000V5-FFGG896]

## AGLE3000V5-FFGG484
designator U?
IGLOOe 1.5V Flash FPGA with Flash*Freeze, 341 User IOs, 3M System Gates, 504Kbits RAM, 1Kbit Flash ROM, 484-Pin FBGA, F Speed Grade, Commercial Grade; DatasheetVersion: v1.0, Jan-2008; PackageVersion: rev39, Aug-2010; PackageReference: FG484; PackageDescription: 484-Ball Fine Pitch Plastic Ball Grid Array (FG484) - Fully Populated; Code_JEDEC: MS-034-AAJ-1; Code_IPC: BGA100P22X22-484; ComponentLink1Description: Manufacturer URL; ComponentLink1URL: http://www.actel.com/; ComponentLink2Description: IGLOOe Datasheet; ComponentLink2URL: http://www.actel.com/documents/IGLOOe_DS.pdf; ComponentLink3Description: Package Mechanical Drawings; ComponentLink3URL: http://www.actel.com/documents/PckgMechDrwngs.pdf; ComponentLink4Description: IGLOOe Documents; ComponentLink4URL: http://www.actel.com/products/igloo/docs.aspx
footprint FG484 (BGA, 484-Leads, Body 23x23mm, Pitch 1mm)
part A pins: A4 IO10NDB0V1 (io), A5 IO10PDB0V1 (io), A6 IO16NDB0V1 (io), A7 IO16PDB0V1 (io), A8 IO18PDB0V2 (io), A9 IO24PDB0V2 (io), A10 IO28NDB0V3 (io), A11 IO28PDB0V3 (io), B3 IO06PPB0V0 (io), B4 IO08NDB0V0 (io), B5 IO08PDB0V0 (io), B6 IO14NDB0V1 (io), B7 IO14PDB0V1 (io), B8 IO18NDB0V2 (io), B9 IO24NDB0V2 (io), B10 IO34PDB0V4 (io), B11 IO40PDB0V4 (io), C4 IO06NPB0V0 (io), C6 IO12NDB0V1 (io), C7 IO12PDB0V1 (io), C10 IO34NDB0V4 (io), C11 IO40NDB0V4 (io), D5 GAA0/IO00NDB0V0 (io), D6 GAA1/IO00PDB0V0 (io), D7 GAB0/IO01NDB0V0 (io), D8 IO20PDB0V2 (io), D9 IO22PDB0V2 (io), D10 IO30PDB0V3 (io), D11 IO38NDB0V4 (io), E7 GAB1/IO01PDB0V0 (io), E8 IO20NDB0V2 (io), E9 IO22NDB0V2 (io), E10 IO30NDB0V3 (io), E11 IO38PDB0V4 (io), F8 GAC0/IO02NDB0V0 (io), F9 GAC1/IO02PDB0V0 (io), F10 IO32NDB0V3 (io), F11 IO32PDB0V3 (io), G9 IO26NDB0V3 (io), G10 IO26PDB0V3 (io), G11 IO36PDB0V4 (io), H11 IO36NDB0V4 (io)
part B pins: A12 IO46PDB1V0 (io), A13 IO54PDB1V1 (io), A14 IO56NDB1V1 (io), A15 IO56PDB1V1 (io), A16 IO64NDB1V2 (io), A17 IO64PDB1V2 (io), A18 IO72NDB1V3 (io), A19 IO74NDB1V4 (io), B12 IO46NDB1V0 (io), B13 IO54NDB1V1 (io), B14 IO62NDB1V2 (io), B15 IO62PDB1V2 (io), B16 IO68NDB1V3 (io), B17 IO68PDB1V3 (io), B18 IO72PDB1V3 (io), B19 IO74PDB1V4 (io), B20 IO76NPB1V4 (io), C12 IO48NDB1V0 (io), C13 IO48PDB1V0 (io), C16 IO70NDB1V3 (io), C17 IO70PDB1V3 (io), C19 IO76PPB1V4 (io), D12 IO52NDB1V1 (io), D13 IO52PDB1V1 (io), D14 IO66NDB1V3 (io), D15 IO66PDB1V3 (io), D16 GBB1/IO80PDB1V4 (io), D17 GBA0/IO81NDB1V4 (io), D18 GBA1/IO81PDB1V4 (io), E12 IO44NDB1V0 (io), E13 IO58NDB1V2 (io), E14 IO58PDB1V2 (io), E15 GBC1/IO79PDB1V4 (io), E16 GBB0/IO80NDB1V4 (io), F12 IO44PDB1V0 (io), F13 IO50NDB1V1 (io), F14 IO60PDB1V2 (io), F15 GBC0/IO79NDB1V4 (io), G12 IO42PDB1V0 (io), G13 IO50PDB1V1 (io), G14 IO60NDB1V2 (io), H12 IO42NDB1V0 (io)
part C pins: C20 IO88NDB2V0 (io), C21 IO94PPB2V1 (io), D20 IO88PDB2V0 (io), D21 IO90PDB2V1 (io), D22 IO94NPB2V1 (io), E18 GBA2/IO82PDB2V0 (io), E19 IO86NDB2V0 (io), E21 IO90NDB2V1 (io), E22 IO98PDB2V2 (io), F18 IO82NDB2V0 (io), F19 IO86PDB2V0 (io), F20 IO96PDB2V1 (io), F21 IO96NDB2V1 (io), F22 IO98NDB2V2 (io), G17 GBB2/IO83PDB2V0 (io), G18 IO92PDB2V1 (io), G19 IO92NDB2V1 (io), G20 IO102PDB2V2 (io), G21 IO102NDB2V2 (io), G22 IO105NDB2V2 (io), H16 GBC2/IO84PDB2V0 (io), H17 IO83NDB2V0 (io), H18 IO100NDB2V2 (io), H19 IO100PDB2V2 (io), H22 IO105PDB2V2 (io), J16 IO84NDB2V0 (io), J17 IO104NDB2V2 (io), J18 IO104PDB2V2 (io), J19 IO106PPB2V3 (io), J21 IO109PDB2V3 (io), J22 IO107PDB2V3 (io), K16 GCC1/IO112PPB2V3 (io), K17 IO108NDB2V3 (io), K18 IO108PDB2V3 (io), K19 IO110NPB2V3 (io), K20 IO106NPB2V3 (io), K21 IO109NDB2V3 (io), K22 IO107NDB2V3 (io), L15 GCC0/IO112NPB2V3 (io), L16 GCB1/IO113PPB2V3 (io), L19 GCB0/IO113NPB2V3 (io), L20 IO110PPB2V3 (io), L21 IO111NDB2V3 (io), L22 IO111PDB2V3 (io)
part D pins: L17 GCA0/IO114NPB3V0 (io), M15 GCB2/IO116PPB3V0 (io), M16 GCA1/IO114PPB3V0 (io), M17 GCC2/IO117PPB3V0 (io), M19 GCA2/IO115PDB3V0 (io), M20 IO115NDB3V0 (io), M21 IO126PDB3V1 (io), M22 IO124PSB3V1 (io), N16 IO116NPB3V0 (io), N17 IO132NPB3V2 (io), N18 IO117NPB3V0 (io), N19 IO132PPB3V2 (io), N21 IO126NDB3V1 (io), N22 IO128PDB3V1 (io), P16 GDB0/IO152NPB3V4 (io), P17 IO136NDB3V2 (io), P18 IO136PDB3V2 (io), P19 IO138PDB3V3 (io), P21 IO130PDB3V2 (io), P22 IO128NDB3V1 (io), R17 GDB1/IO152PPB3V4 (io), R18 GDC1/IO151PDB3V4 (io), R19 IO138NDB3V3 (io), R21 IO130NDB3V2 (io), R22 IO134PDB3V2 (io), T18 GDC0/IO151NDB3V4 (io), T19 GDA1/IO153PDB3V4 (io), T20 IO144PDB3V3 (io), T21 IO140PDB3V3 (io), T22 IO134NDB3V2 (io), U19 GDA0/IO153NDB3V4 (io), U20 IO144NDB3V3 (io), U21 IO140NDB3V3 (io), U22 IO142PDB3V3 (io), V21 IO146PDB3V4 (io), V22 IO142NDB3V3 (io), W20 IO150NDB3V4 (io), W21 IO146NDB3V4 (io), W22 IO148PPB3V4 (io), Y20 IO150PDB3V4 (io), Y21 IO148NPB3V4 (io)
part E pins: AA11 IO188PPB4V4 (io), AA12 IO180NDB4V3 (io), AA13 IO180PDB4V3 (io), AA14 IO170NDB4V2 (io), AA15 IO170PDB4V2 (io), AA16 IO166NDB4V1 (io), AA17 IO166PDB4V1 (io), AA18 IO160NDB4V0 (io), AA19 IO160PDB4V0 (io), AA20 IO158NPB4V0 (io), AB12 IO174NDB4V2 (io), AB13 IO174PDB4V2 (io), AB14 IO172NDB4V2 (io), AB15 IO172PDB4V2 (io), AB16 IO168NDB4V1 (io), AB17 IO168PDB4V1 (io), AB18 IO162NDB4V1 (io), AB19 IO162PDB4V1 (io), T13 IO186NDB4V4 (io), T14 IO186PDB4V4 (io), U13 IO176NDB4V2 (io), U14 IO176PDB4V2 (io), V13 IO178NDB4V3 (io), V14 IO178PDB4V3 (io), V15 IO155NDB4V0 (io), V16 GDB2/IO155PDB4V0 (io), W11 IO192NDB4V4 (io), W12 IO184NDB4V3 (io), W13 IO184PDB4V3 (io), W14 IO156NDB4V0 (io), W15 GDC2/IO156PDB4V0 (io), W16 IO154NDB4V0 (io), W17 GDA2/IO154PDB4V0 (io), Y11 IO192PDB4V4 (io), Y12 IO188NPB4V4 (io), Y13 IO187PSB4V4 (io), Y16 IO164NDB4V1 (io), Y17 IO164PDB4V1 (io), Y19 IO158PPB4V0 (io)
part F pins: AA3 IO228PDB5V4 (io), AA4 IO224PDB5V3 (io), AA5 IO218NDB5V3 (io), AA6 IO218PDB5V3 (io), AA7 IO212NDB5V2 (io), AA8 IO212PDB5V2 (io), AA9 IO198PDB5V0 (io), AA10 IO198NDB5V0 (io), AB4 IO216NDB5V2 (io), AB5 IO216PDB5V2 (io), AB6 IO210NDB5V2 (io), AB7 IO210PDB5V2 (io), AB8 IO208NDB5V1 (io), AB9 IO208PDB5V1 (io), AB10 IO197NDB5V0 (io), AB11 IO197PDB5V0 (io), R11 IO196NDB5V0 (io), R12 IO196PDB5V0 (io), T9 GEA2/IO233PPB5V4 (io), T10 IO206NDB5V1 (io), T11 IO202NDB5V1 (io), T12 IO194NDB5V0 (io), U8 IO233NPB5V4 (io), U9 IO222PPB5V3 (io), U10 IO206PDB5V1 (io), U11 IO202PDB5V1 (io), U12 IO194PDB5V0 (io), V7 GEC2/IO231PDB5V4 (io), V8 IO222NPB5V3 (io), V9 IO204NDB5V1 (io), V10 IO204PDB5V1 (io), V11 IO195NDB5V0 (io), V12 IO195PDB5V0 (io), W3 IO230PSB5V4 (io), W5 IO232NDB5V4 (io), W6 FF/GEB2/IO232PDB5V4 (io), W7 IO231NDB5V4 (io), W8 IO214NDB5V2 (io), W9 IO214PDB5V2 (io), W10 IO200NDB5V0 (io), Y3 IO228NDB5V4 (io), Y4 IO224NDB5V3 (io), Y6 IO220NDB5V3 (io), Y7 IO220PDB5V3 (io), Y10 IO200PDB5V0 (io)
part G pins: L1 IO257PSB6V2 (io), L5 GFA0/IO273NDB6V4 (io), M2 IO255NPB6V2 (io), M3 IO272NDB6V4 (io), M4 GFA2/IO272PDB6V4 (io), M5 GFA1/IO273PDB6V4 (io), M7 IO271NDB6V4 (io), M8 GFB2/IO271PDB6V4 (io), N1 IO255PPB6V2 (io), N2 IO253NDB6V2 (io), N4 GFC2/IO270PPB6V4 (io), N5 IO261PPB6V3 (io), N6 IO263PDB6V3 (io), N7 IO263NDB6V3 (io), P1 IO247PDB6V1 (io), P2 IO253PDB6V2 (io), P3 IO270NPB6V4 (io), P4 IO261NPB6V3 (io), P5 IO249PPB6V1 (io), P6 IO259PDB6V3 (io), P7 IO259NDB6V3 (io), R1 IO247NDB6V1 (io), R2 IO245PDB6V1 (io), R4 IO249NPB6V1 (io), R5 IO251NDB6V2 (io), R6 IO251PDB6V2 (io), R7 GEC0/IO236NPB6V0 (io), T1 IO243PPB6V1 (io), T2 IO245NDB6V1 (io), T3 IO243NPB6V1 (io), T4 IO241PDB6V0 (io), T5 IO241NDB6V0 (io), T6 GEC1/IO236PPB6V0 (io), U1 IO240PPB6V0 (io), U2 IO238PDB6V0 (io), U3 IO238NDB6V0 (io), U4 GEB1/IO235PDB6V0 (io), U5 GEB0/IO235NDB6V0 (io), V1 IO239PDB6V0 (io), V2 IO240NPB6V0 (io), V4 GEA1/IO234PDB6V0 (io), V5 GEA0/IO234NDB6V0 (io), W1 IO239NDB6V0 (io), W2 IO237PDB6V0 (io), Y2 IO237NDB6V0 (io)
part H pins: C2 IO303PDB7V3 (io), C3 IO305PDB7V3 (io), D1 IO293PDB7V2 (io), D2 IO303NDB7V3 (io), D3 IO305NDB7V3 (io), E1 IO293NDB7V2 (io), E2 IO299PPB7V3 (io), E4 GAB2/IO308PDB7V4 (io), E5 GAA2/IO309PDB7V4 (io), F1 IO299NPB7V3 (io), F2 IO301NDB7V3 (io), F3 IO301PDB7V3 (io), F4 IO308NDB7V4 (io), F5 IO309NDB7V4 (io), G1 IO289NDB7V1 (io), G2 IO289PDB7V1 (io), G3 IO291PPB7V2 (io), G4 IO295PDB7V2 (io), G5 IO297PDB7V2 (io), G6 GAC2/IO307PDB7V4 (io), H1 IO286PSB7V1 (io), H2 IO291NPB7V2 (io), H4 IO295NDB7V2 (io), H5 IO297NDB7V2 (io), H6 IO307NDB7V4 (io), H7 IO287PDB7V1 (io), J1 IO285NDB7V1 (io), J2 IO285PDB7V1 (io), J4 IO279PDB7V0 (io), J5 IO283PDB7V1 (io), J6 IO281PDB7V0 (io), J7 IO287NDB7V1 (io), K1 IO277NDB7V0 (io), K2 IO277PDB7V0 (io), K4 IO279NDB7V0 (io), K5 IO283NDB7V1 (io), K6 IO281NDB7V0 (io), K7 GFC1/IO275PPB7V0 (io), L2 IO276PDB7V0 (io), L3 IO276NDB7V0 (io), L4 GFB0/IO274NPB7V0 (io), L6 GFB1/IO274PPB7V0 (io), L8 GFC0/IO275NPB7V0 (io)
part I pins: U16 TCK (in), U18 ~{TRST} (in), V17 TDI (in), V19 TDO (out), W18 TMS (in)
part J pins: A3 VCCIB0 (power), A20 VCCIB1 (power), AA2 VCCIB6 (power), AA21 VCCIB3 (power), AB3 VCCIB5 (power), AB20 VCCIB4 (power), B2 VCCIB7 (power), B21 VCCIB2 (power), C1 VCCIB7 (power), C8 VCC (power), C9 VCC (power), C14 VCC (power), C15 VCC (power), C22 VCCIB2 (power), F6 VMV7 (power), F17 VMV2 (power), H3 VCC (power), H8 VMV0 (power), H9 VCCIB0 (power), H10 VCCIB0 (power), H13 VCCIB1 (power), H14 VCCIB1 (power), H15 VMV1 (power), H20 VCC (power), H21 VMV2 (power), J3 VMV7 (power), J8 VCCIB7 (power), J10 VCC (power), J11 VCC (power), J12 VCC (power), J13 VCC (power), J15 VCCIB2 (power), K8 VCCIB7 (power), K9 VCC (power), K14 VCC (power), K15 VCCIB2 (power), L9 VCC (power), L14 VCC (power), M9 VCC (power), M14 VCC (power), N3 VMV6 (power), N8 VCCIB6 (power), N9 VCC (power), N14 VCC (power), N15 VCCIB3 (power), P8 VCCIB6 (power), P10 VCC (power), P11 VCC (power), P12 VCC (power), P13 VCC (power), P15 VCCIB3 (power), P20 VMV3 (power), R3 VCC (power), R8 VMV5 (power), R9 VCCIB5 (power), R10 VCCIB5 (power), R13 VCCIB4 (power), R14 VCCIB4 (power), R15 VMV3 (power), R20 VCC (power), T17 VJTAG (power), U6 VMV6 (power), U15 VMV4 (power), U17 VPUMP (power), Y1 VCCIB6 (power), Y8 VCC (power), Y9 VCC (power), Y14 VCC (power), Y15 VCC (power), Y22 VCCIB3 (power)
part K pins: A1 GND (power), A2 GND (power), A21 GND (power), A22 GND (power), AA1 GND (power), AA22 GND (power), AB1 GND (power), AB2 GND (power), AB21 GND (power), AB22 GND (power), B1 GND (power), B22 GND (power), C5 GND (power), C18 GND (power), D4 GND (power), D19 GND (power), E3 GND (power), E6 GNDQ (power), E17 GNDQ (power), E20 GND (power), G8 GNDQ (power), G15 GNDQ (power), J9 GND (power), J14 GND (power), J20 GNDQ (power), K3 GNDQ (power), K10 GND (power), K11 GND (power), K12 GND (power), K13 GND (power), L10 GND (power), L11 GND (power), L12 GND (power), L13 GND (power), M1 GNDQ (power), M10 GND (power), M11 GND (power), M12 GND (power), M13 GND (power), N10 GND (power), N11 GND (power), N12 GND (power), N13 GND (power), N20 GNDQ (power), P9 GND (power), P14 GND (power), T8 GNDQ (power), T15 GNDQ (power), V3 GND (power), V6 GNDQ (power), V18 GNDQ (power), V20 GND (power), W4 GND (power), W19 GND (power), Y5 GND (power), Y18 GND (power)
part L pins: F7 VCCPLA (power), F16 VCCPLB (power), G7 VCOMPLA (power), G16 VCOMPLB (power), L7 VCOMPLF (power), L18 VCOMPLC (power), M6 VCCPLF (power), M18 VCCPLC (power), R16 VCCPLD (power), T7 VCOMPLE (power), T16 VCOMPLD (power), U7 VCCPLE (power)
part A text: BANK 0
part B text: BANK 1
part C text: BANK 2
part D text: BANK 3
part E text: BANK 4
part F text: BANK 5
part G text: BANK 6
part H text: BANK 7

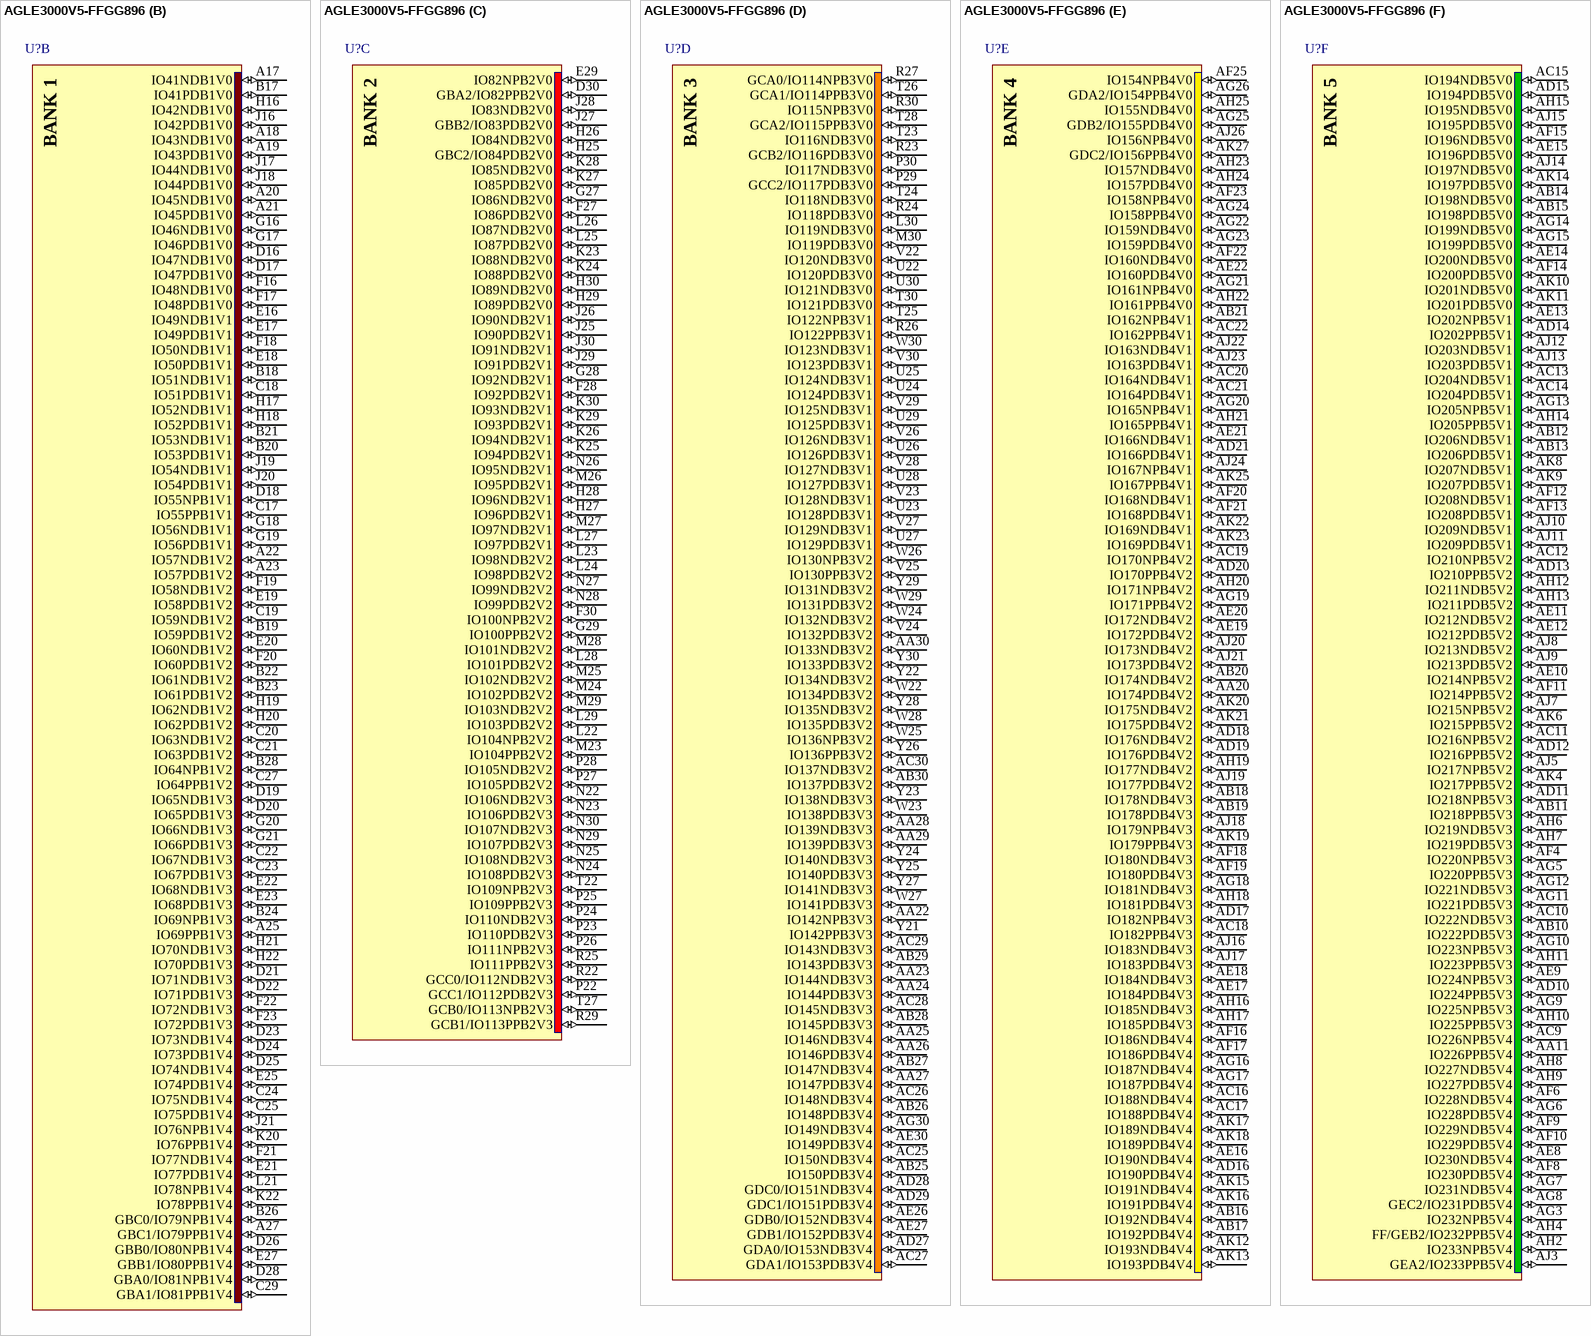
[diagram p50: symbol AGLE3000V5-FFGG896]

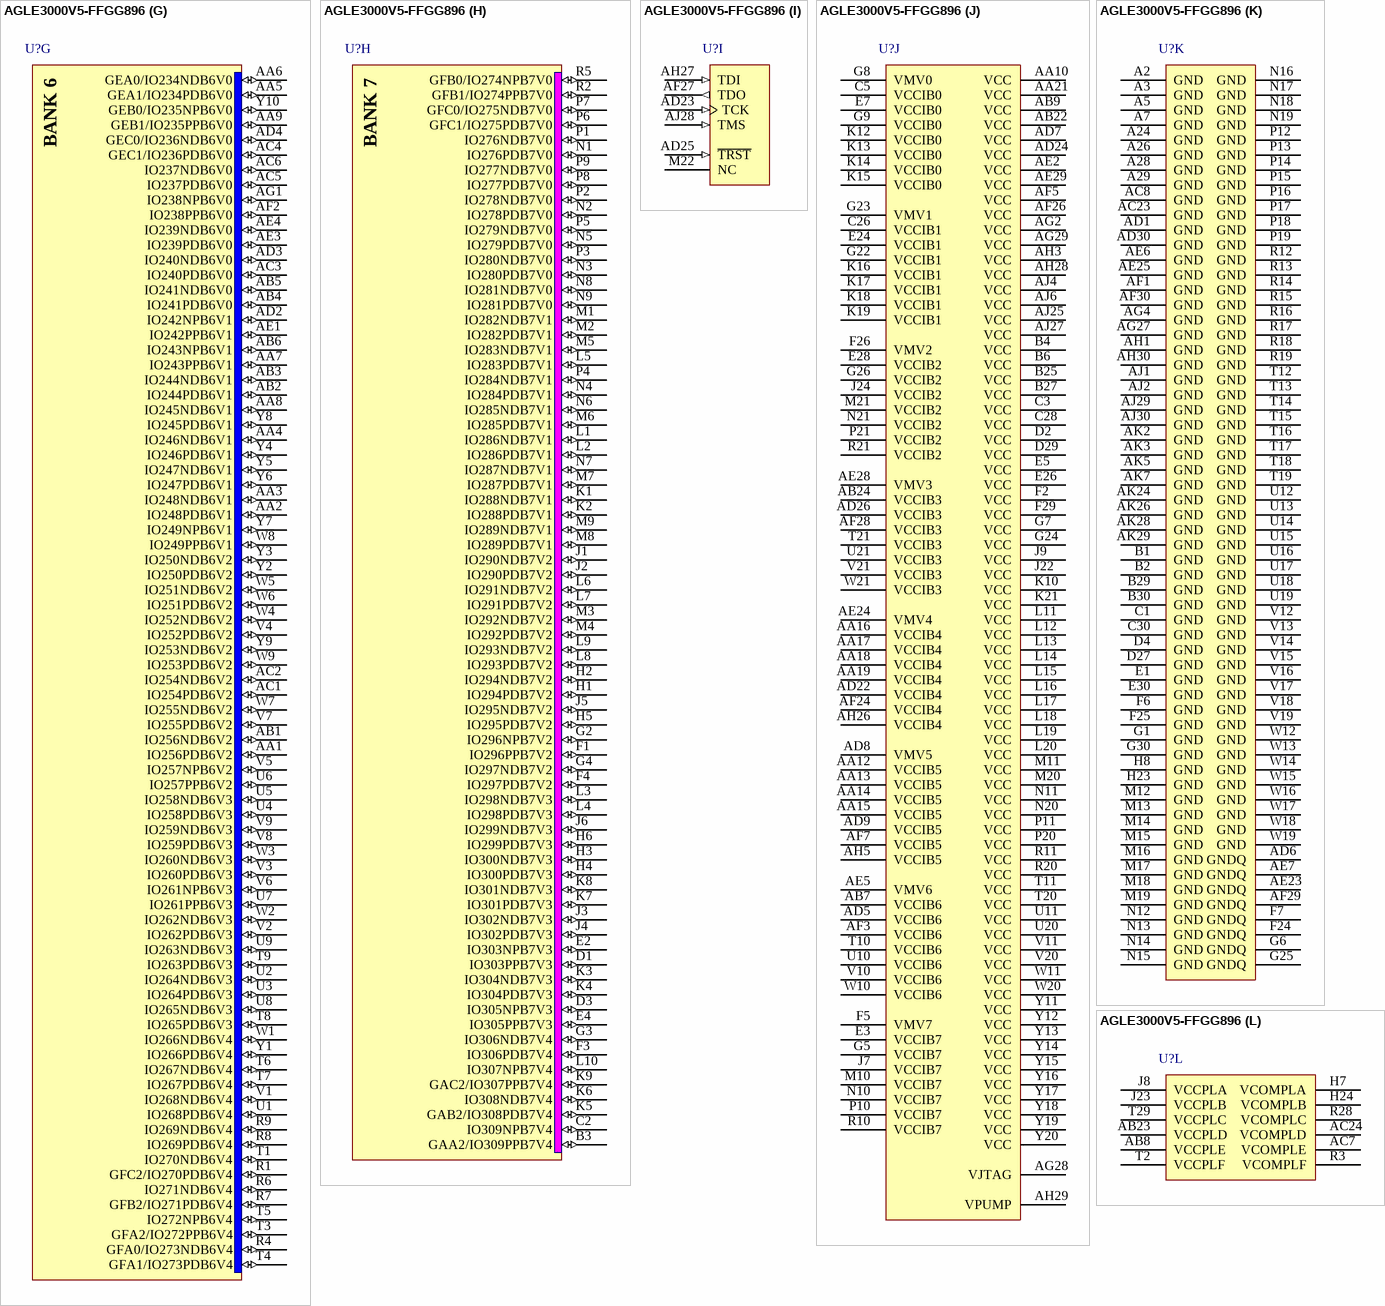
[diagram p51: symbol AGLE3000V5-FFGG896]